# Altium schematic symbol library buffer_digital.SchLib: 134 symbols (part 1 of 2)
Pins are listed as number, name and electrical type; pins without a type are passive.

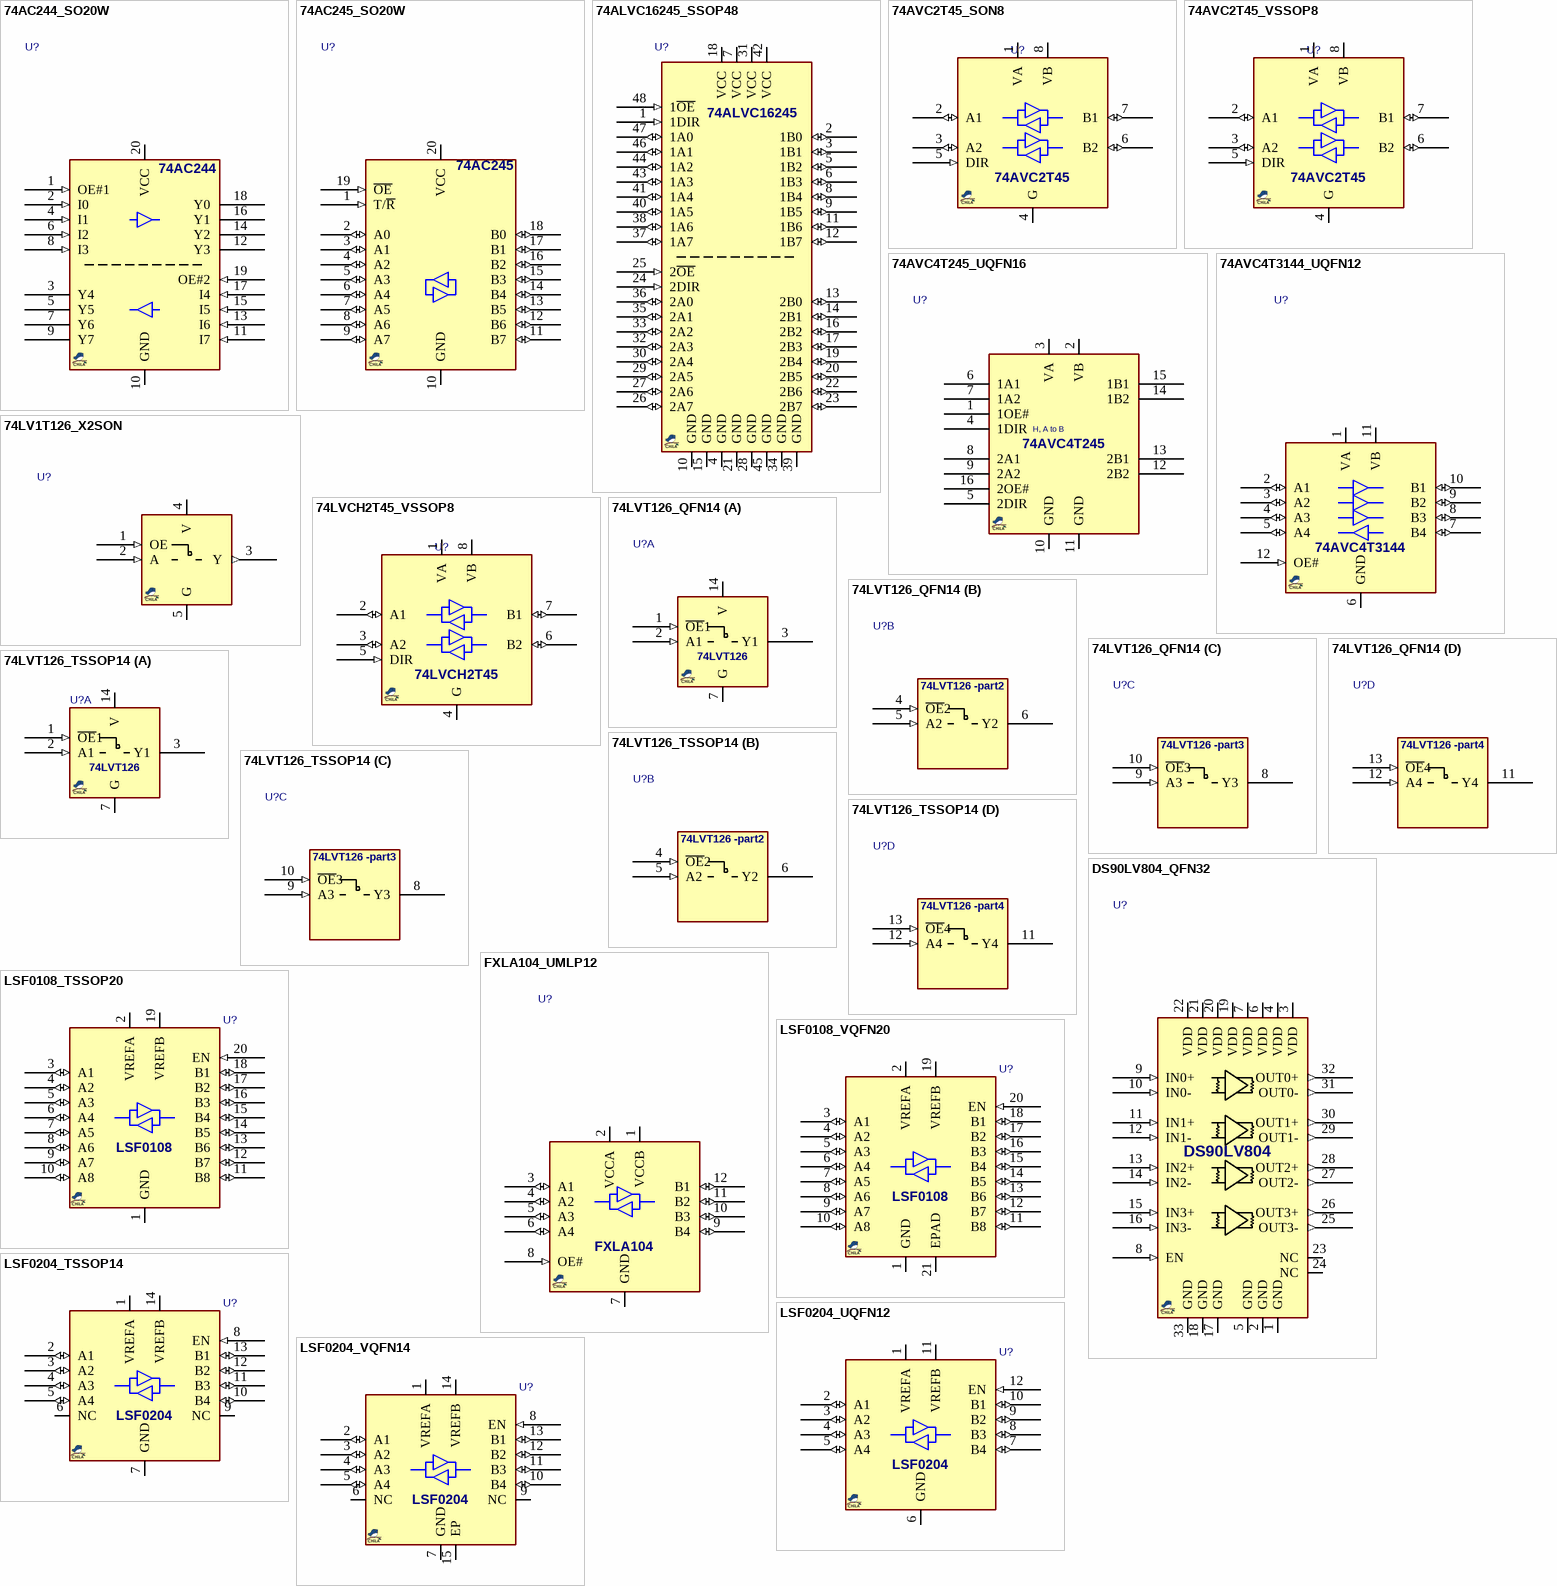
[diagram p0: symbols 74AC244_SO20W to LSF0204_VQFN14]

## 74AC244_SO20W
designator U?, comment 74AC244  (value not drawn)
Buffer/Line Driver, Octal with 3-State Output; MANF: Fairchild; DIST#: MOUSER/512-74AC244SC; MANF_P#: 74AC244SC; PRICE: 0.6$; PACKAGE: SOP-20W; VALUE: 74AC244
footprint SO_20_W (SOP, SOIC, 7.5mm width, 1.27mm pitch,)
pins: 1 OE#1 (in), 2 I0 (in), 3 Y4 (hiz), 4 I1 (in), 5 Y5 (hiz), 6 I2 (in), 7 Y6 (hiz), 8 I3 (in), 9 Y7 (hiz), 10 GND (power), 11 I7 (in), 12 Y3 (hiz), 13 I6 (in), 14 Y2 (hiz), 15 I5 (in), 16 Y1 (hiz), 17 I4 (in), 18 Y0 (hiz), 19 OE#2 (in), 20 VCC (power)

## 74AC245_SO20W
designator U?, comment 74AC245  (value not drawn)
Buffer/Line Driver, Bidirectional, Octal with 3-State Input/Output; MANF: Fairchild; DIST#: MOUSER/512-74AC245SCX; MANF_P#: 74AC245SCX; PRICE: 0.65$; PACKAGE: SOP-20W; VALUE: 74AC245
footprint SO_20_W (SOP, SOIC, 7.5mm width, 1.27mm pitch,)
pins: 1 T/~{R} (in), 2 A0 (io), 3 A1 (io), 4 A2 (io), 5 A3 (io), 6 A4 (io), 7 A5 (io), 8 A6 (io), 9 A7 (io), 10 GND (power), 11 B7 (io), 12 B6 (io), 13 B5 (io), 14 B4 (io), 15 B3 (io), 16 B2 (io), 17 B1 (io), 18 B0 (io), 19 ~{OE} (in), 20 VCC (power)

## 74ALVC16245_SSOP48
designator U?, comment 74ALVC16245  (value not drawn)
bus transceiver, 16-bit, with direction pin; 3-state; MANF: NXP; MANF_P#: 74ALVC16245DL, 74ALVCH16245DL; PACKAGE: SSOP-48; VALUE: 74ALVC16245
footprint SOG63_48
pins: 1 1DIR (in), 2 1B0 (io), 3 1B1 (io), 4 GND (power), 5 1B2 (io), 6 1B3 (io), 7 VCC (power), 8 1B4 (io), 9 1B5 (io), 10 GND (power), 11 1B6 (io), 12 1B7 (io), 13 2B0 (io), 14 2B1 (io), 15 GND (power), 16 2B2 (io), 17 2B3 (io), 18 VCC (power), 19 2B4 (io), 20 2B5 (io), 21 GND (power), 22 2B6 (io), 23 2B7 (io), 24 2DIR (in), 25 2~{OE} (in), 26 2A7 (io), 27 2A6 (io), 28 GND (power), 29 2A5 (io), 30 2A4 (io), 31 VCC (power), 32 2A3 (io), 33 2A2 (io), 34 GND (power), 35 2A1 (io), 36 2A0 (io), 37 1A7 (io), 38 1A6 (io), 39 GND (power), 40 1A5 (io), 41 1A4 (io), 42 VCC (power), 43 1A3 (io), 44 1A2 (io), 45 GND (power), 46 1A1 (io), 47 1A0 (io), 48 1~{OE} (in)

## 74AVC2T45_SON8
designator U?, comment 74AVC2T45  (value not drawn)
Level Translator, Dual, 3State; MANF: NXP; MANF_P#: 74AVC2T45GT,115; PARAM2: 0.8~3.6Vcc; PARAM: 500 Mbps 1.8to3.3, 4pF, ±50mA; PRICE: 0.4$; PACKAGE: SON-8; VALUE: 74AVC2T45
footprint SON50_8_2010 (QFN-8 DLC, 1.95X1X0.5mm, pitch: 0.5mm)
pins: 1 VA, 2 A1 (io), 3 A2 (io), 4 G, 5 DIR (in), 6 B2 (io), 7 B1 (io), 8 VB

## 74AVC2T45_VSSOP8
designator U?, comment 74AVC2T45  (value not drawn)
Level Translator, Dual, 3State; MANF: NXP, TI; MANF_P#: 74AVC2T45DC, SN74AVC2T45DCU; PARAM2: 0.8~3.6Vcc; PARAM: 500 Mbps 1.8to3.3, 4pF, ±50mA; PRICE: 0.4$; PACKAGE: VSSOP-8; VALUE: 74AVC2T45
footprint SOG50_8 (VSSOP DCU US8  (TI), 8-Leads, 2.00x2.30mm, Pitch 0.50mm)
pins: 1 VA, 2 A1 (io), 3 A2 (io), 4 G, 5 DIR (in), 6 B2 (io), 7 B1 (io), 8 VB

## 74AVC4T245_UQFN16
designator U?, comment 74AVC4T245  (value not drawn)
Buffer and Level Translator, 4-bit; PARAM: 12mA, 380Mbps, 5ns/V, -40~85°C; MANF: NXP; DESC: DESCRIPTION; MANF_P#: 74AVC4T245GU; PARAM2: 0.8~3.6V; PRICE: 1.8$; ASSEMBLY: ASSEMBLY; VALUE: 74AVC4T245; PACKAGE: UQFN-16
footprint QFN40_16_2618 (PUQFN-16 RSV 2.6X1.8mm, 0.4mm pitch)
pins: 1 1OE#, 2 VB, 3 VA, 4 1DIR, 5 2DIR, 6 1A1, 7 1A2, 8 2A1, 9 2A2, 10 GND, 11 GND, 12 2B2, 13 2B1, 14 1B2, 15 1B1, 16 2OE#
text: H, A to B

## 74AVC4T3144_UQFN12
designator U?, comment 74AVC4T3144  (value not drawn)
Level Translator, Quad, 100Mbps, UQFN-12; MANF: NXP; MANF_P#: 74AVC4T3144GU12; PARAM2: 0.9~4.5VCC; PARAM: 300Mbps, -40~85oC; PRICE: 1.4$; PACKAGE: UQFN-12; VALUE: 74AVC4T3144
footprint QFN40_12_1720 (UQFN-12, pitch: 0.4mm, 1.7x2x0.5mm)
pins: 1 VA, 2 A1 (io), 3 A2 (io), 4 A3 (io), 5 A4 (io), 6 GND, 7 B4 (io), 8 B3 (io), 9 B2 (io), 10 B1 (io), 11 VB, 12 OE# (in)

## 74LV1T126_X2SON
designator U?, comment 74LV1T126  (value not drawn)
Buffer, Single; MANF: NXP; PARAM: ±24mA, 5ns, -40~125°C; DESC: DESCRIPTION; MANF_P#: 74LV1T126GX; PARAM2: 1.65~5.5v; ASSEMBLY: ASSEMBLY; PRICE: 0.4$; PACKAGE: X2SON; VALUE: 74LV1T126
footprint SON50_4T_0808 (SDFN-4, X2SON 5, DPW, 0.8X0.8mm, 0.48mm pitch)
pins: 1 OE (in), 2 A (in), 3 Y (out), 4 V (power), 5 G (power)

## 74LVCH2T45_VSSOP8
designator U?, comment 74LVCH2T45  (value not drawn)
Level Translator, Dual, 3State; MANF: NXP; MANF_P#: 74LVCH2T45DC,125; PRICE: 0.6$; PACKAGE: VSSOP-8; VALUE: 74LVCH2T45
footprint SOG50_8 (VSSOP DCU US8  (TI), 8-Leads, 2.00x2.30mm, Pitch 0.50mm)
pins: 1 VA, 2 A1 (io), 3 A2 (io), 4 G, 5 DIR (in), 6 B2 (io), 7 B1 (io), 8 VB

## 74LVT126_QFN14
designator U?, comment 74LVT126  (value not drawn)
Buffer/Line Driver, Quad, Tri-State; MANF: NXP; MANF_P#: 74LVT126BQ,115; PARAM2: 3.3V; PARAM: 64mA, 6ns, -40~85°C; PRICE: 0.4$; PACKAGE: QFN-14; VALUE: 74LVT126
footprint QFN50_14T_2530 (DHVQFN14, 0.5mm pitch, 2.5x3x0.85mm)
part A pins: 1 ~{OE}1 (in), 2 A1 (in), 3 Y1 (hiz), 7 G (power), 14 V (power)
part B pins: 4 ~{OE}2 (in), 5 A2 (in), 6 Y2 (hiz)
part C pins: 8 Y3 (hiz), 9 A3 (in), 10 ~{OE}3 (in)
part D pins: 11 Y4 (hiz), 12 A4 (in), 13 ~{OE}4 (in)
part B text: 74LVT126 -part2
part C text: 74LVT126 -part3
part D text: 74LVT126 -part4

## 74LVT126_TSSOP14
designator U?, comment 74LVT126  (value not drawn)
Buffer/Line Driver, Quad, Tri-State; MANF: NXP; MANF_P#: 74LVT126BQ,115; PARAM2: 3.3V; PARAM: 64mA, 6ns, -40~85°C; PRICE: 0.4$; PACKAGE: TSSOP-14; VALUE: 74LVT126
footprint QFN50_14T_2530 (DHVQFN14, 0.5mm pitch, 2.5x3x0.85mm)
part A pins: 1 ~{OE}1 (in), 2 A1 (in), 3 Y1 (hiz), 7 G (power), 14 V (power)
part B pins: 4 ~{OE}2 (in), 5 A2 (in), 6 Y2 (hiz)
part C pins: 8 Y3 (hiz), 9 A3 (in), 10 ~{OE}3 (in)
part D pins: 11 Y4 (hiz), 12 A4 (in), 13 ~{OE}4 (in)
part B text: 74LVT126 -part2
part C text: 74LVT126 -part3
part D text: 74LVT126 -part4

## DS90LV804_QFN32
designator U?, comment DS90LV804  (value not drawn)
Buffer/Line Driver, 4CH, LVDS, 800Mbps; MANF: Texas Instruments; MANF_P#: DS90LV804TSQ; PARAM2: 3.3Vcc; DIST#: -; PRICE: 5$; PARAM: 4CH, LVDS, 800Mbps; VALUE: DS90LV804; PACKAGE: QFN-32
footprint QFN50_32T (QFN-32, RGJ, 5X5mm, 0.5mm)
pins: 1 GND (power), 2 GND (power), 3 VDD (power), 4 VDD (power), 5 GND (power), 6 VDD (power), 7 VDD (power), 8 EN (in), 9 IN0+ (in), 10 IN0- (in), 11 IN1+ (in), 12 IN1- (in), 13 IN2+ (in), 14 IN2- (in), 15 IN3+ (in), 16 IN3- (in), 17 GND (power), 18 GND (power), 19 VDD (power), 20 VDD (power), 21 VDD (power), 22 VDD (power), 23 NC, 24 NC, 25 OUT3- (out), 26 OUT3+ (out), 27 OUT2- (out), 28 OUT2+ (out), 29 OUT1- (out), 30 OUT1+ (out), 31 OUT0- (out), 32 OUT0+ (out), 33 GND (power)

## FXLA104_UMLP12
designator U?, comment FXLA104  (value not drawn)
Level Translator, Quad, 100Mbps, UMLP-12; MANF: ON/FAIRCHILD; MANF_P#: FXLA104UM12X; PARAM2: 1.1~3.6VCC (VCCA<=VCCB); PARAM: 100Mbps, -40~85oC; PRICE: 1.4$; PACKAGE: UMLP-12; VALUE: FXLA104
footprint QFN40_12_1818 (UMLP-12, QFN, 12-Leads, 1.8x1.80mm, Pitch 0.40mm, JEDEC MO-252)
pins: 1 VCCB, 2 VCCA, 3 A1 (io), 4 A2 (io), 5 A3 (io), 6 A4 (io), 7 GND, 8 OE# (in), 9 B4 (io), 10 B3 (io), 11 B2 (io), 12 B1 (io)

## LSF0108_TSSOP20
designator U?, comment LSF0108  (value not drawn)
Level Translator, 8CH, Bidirectional, Open-Drain/Push-Pull App, GPIO, MDIO, PMBus, SMBus, SDIO, UART, I2C; MANF: Texas Instruments; MANF_P#: LSF0108PW; PARAM2: 0.65~3.3VrefA, 1.8~5VrefB; PARAM: 100MHz; PACKAGE: TSSOP-20; VALUE: LSF0108
footprint SOG65_20 (PW TSSOP (TI), MO-153-AC (JEDEC), 20Lead, pitch: 0.65mm, 6.5x4.4x1.2mm)
pins: 1 GND (power), 2 VREFA (power), 3 A1 (io), 4 A2 (io), 5 A3 (io), 6 A4 (io), 7 A5 (io), 8 A6 (io), 9 A7 (io), 10 A8 (io), 11 B8 (io), 12 B7 (io), 13 B6 (io), 14 B5 (io), 15 B4 (io), 16 B3 (io), 17 B2 (io), 18 B1 (io), 19 VREFB (power), 20 EN (in)

## LSF0108_VQFN20
designator U?, comment LSF0108  (value not drawn)
Level Translator, 8CH, Bidirectional, Open-Drain/Push-Pull App, GPIO, MDIO, PMBus, SMBus, SDIO, UART, I2C; MANF: Texas Instruments; MANF_P#: LSF0108RKS; PARAM2: 0.65~3.3VrefA, 1.8~5VrefB; PARAM: 100MHz; PACKAGE: VQFN-20; VALUE: LSF0108
footprint QFN50_20T_4525 (RKS VQFN-20, 0.5mm Pitch, 4.5x2.5x1mm)
pins: 1 GND (power), 2 VREFA (power), 3 A1 (io), 4 A2 (io), 5 A3 (io), 6 A4 (io), 7 A5 (io), 8 A6 (io), 9 A7 (io), 10 A8 (io), 11 B8 (io), 12 B7 (io), 13 B6 (io), 14 B5 (io), 15 B4 (io), 16 B3 (io), 17 B2 (io), 18 B1 (io), 19 VREFB (power), 20 EN (in), 21 EPAD

## LSF0204_TSSOP14
designator U?, comment LSF0204  (value not drawn)
Level Translator, 4CH, Bidirectional, Open-Drain/Push-Pull App,  GPIO, MDIO, PMBus, SMBus, SDIO, UART, I2C; MANF: Texas Instruments; MANF_P#: LSF0204PWR; PARAM2: 0.65~3.3VrefA, 1.8~5VrefB; PARAM: 100MHz; PACKAGE: TSSOP-14; VALUE: LSF0204
footprint SOG65_14 (PW TSSOP (TI), MO-153-AB (JEDEC), 14Lead, pitch: 0.65mm, 5x4.4x1.2mm)
pins: 1 VREFA, 2 A1 (io), 3 A2 (io), 4 A3 (io), 5 A4 (io), 6 NC, 7 GND, 8 EN (in), 9 NC, 10 B4 (io), 11 B3 (io), 12 B2 (io), 13 B1 (io), 14 VREFB

## LSF0204_UQFN12
designator U?, comment LSF0204  (value not drawn)
Level Translator, 4CH, Bidirectional, Open-Drain/Push-Pull App,  GPIO, MDIO, PMBus, SMBus, SDIO, UART, I2C; MANF: Texas Instruments; MANF_P#: LSF0204RUT; PARAM2: 0.65~3.3VrefA, 1.8~5VrefB; PARAM: 100MHz; PACKAGE: UQFN-12; VALUE: LSF0204
footprint QFN40_12_1720 (UQFN-12, pitch: 0.4mm, 1.7x2x0.5mm)
pins: 1 VREFA (power), 2 A1 (io), 3 A2 (io), 4 A3 (io), 5 A4 (io), 6 GND (power), 7 B4 (io), 8 B3 (io), 9 B2 (io), 10 B1 (io), 11 VREFB (power), 12 EN (in)

## LSF0204_VQFN14
designator U?, comment LSF0204  (value not drawn)
Level Translator, 4CH, Bidirectional, Open-Drain/Push-Pull App,  GPIO, MDIO, PMBus, SMBus, SDIO, UART, I2C; MANF: Texas Instruments; MANF_P#: LSF0204RGYR; PARAM2: 0.65~3.3VrefA, 1.8~5VrefB; PARAM: 100MHz; PACKAGE: VQFN-14; VALUE: LSF0204
footprint QFN50_14T_3535 (S-PVQFN-N14, 3.5X3.5mm, pitch: 0.5mm, 6+2+6+2)
pins: 1 VREFA, 2 A1 (io), 3 A2 (io), 4 A3 (io), 5 A4 (io), 6 NC, 7 GND, 8 EN (in), 9 NC, 10 B4 (io), 11 B3 (io), 12 B2 (io), 13 B1 (io), 14 VREFB, 15 EP

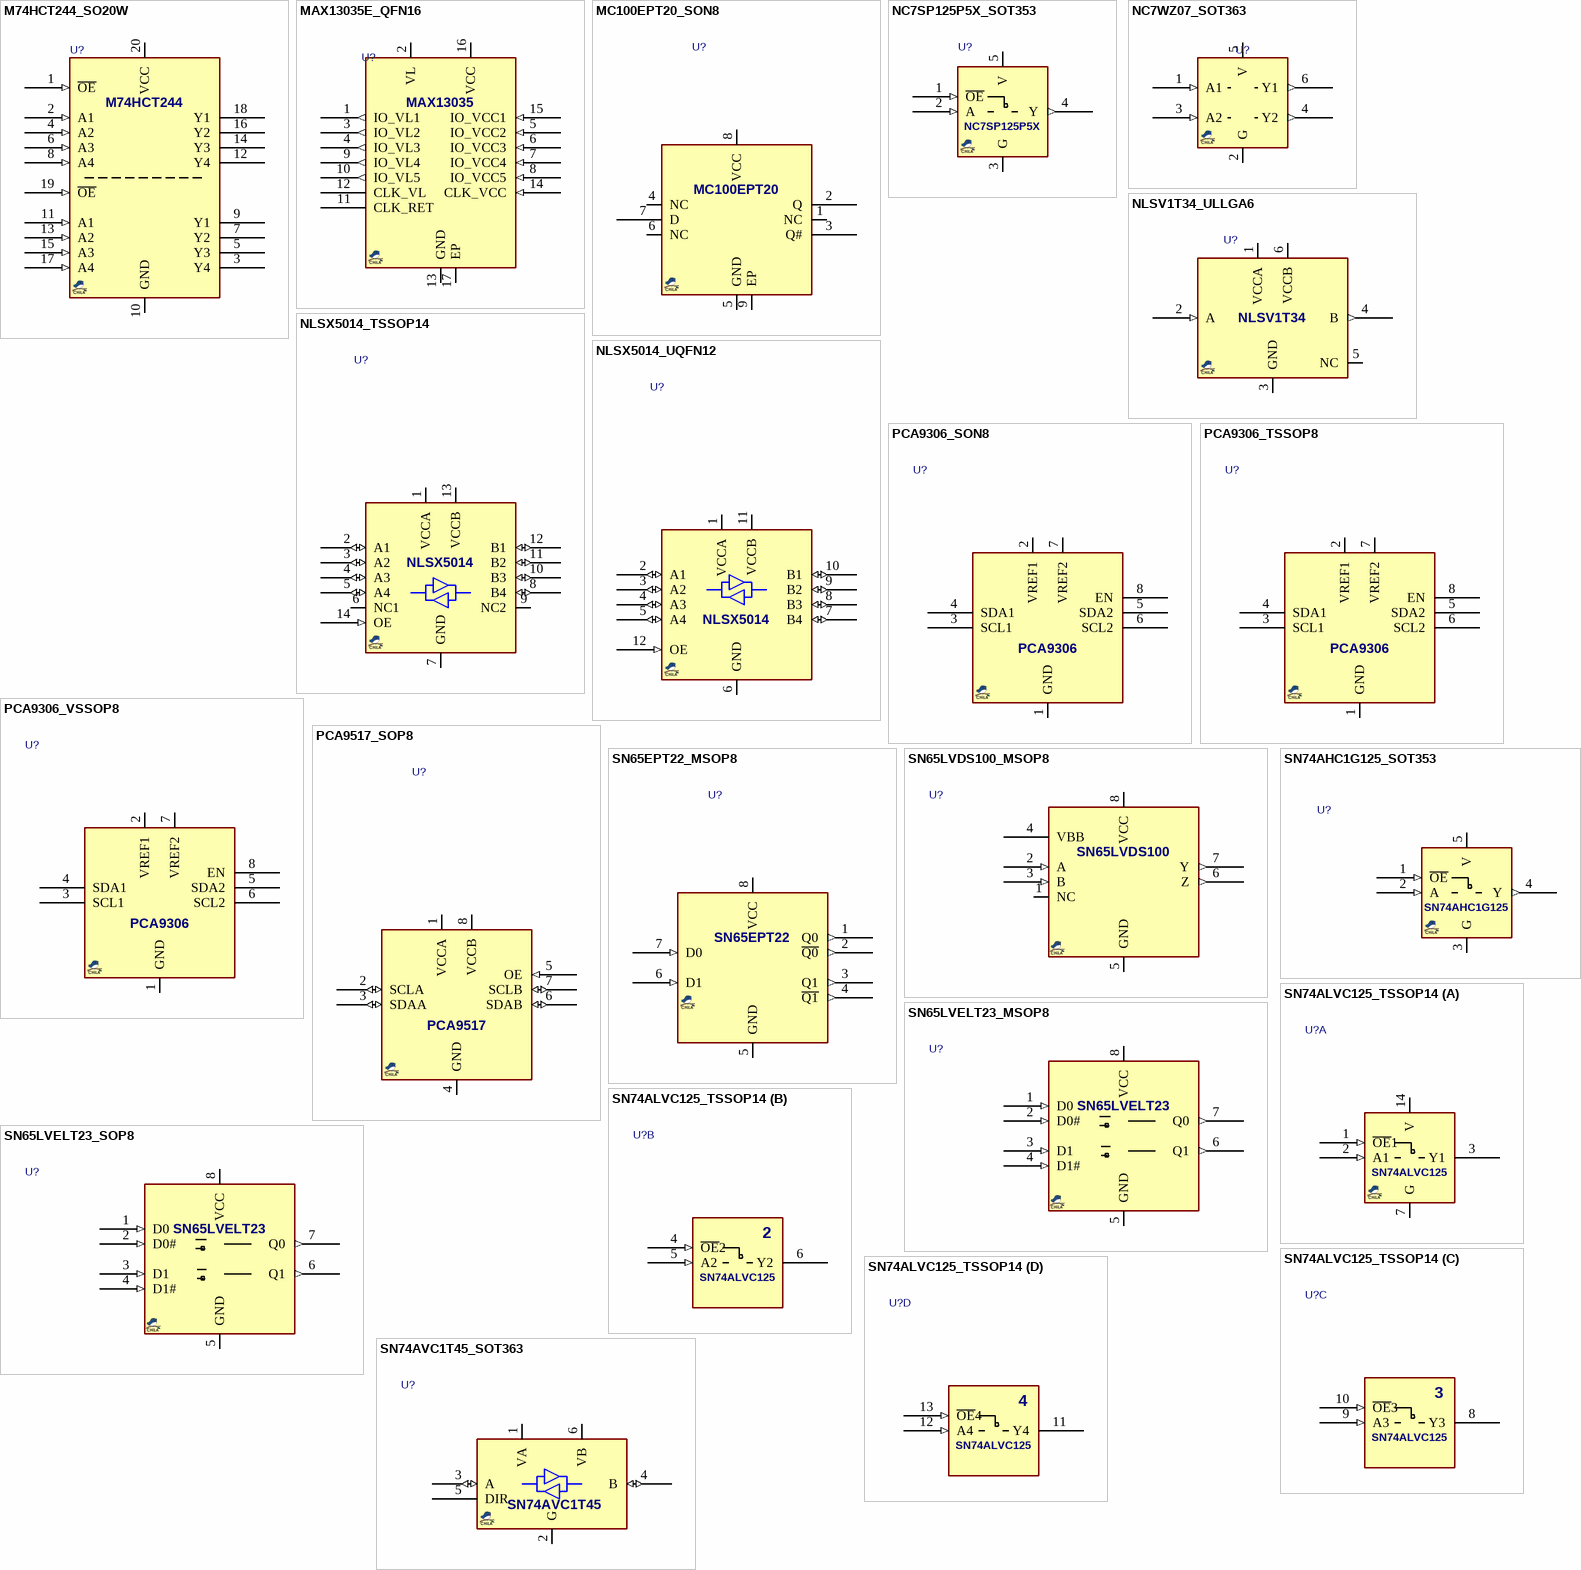
[diagram p1: symbols M74HCT244_SO20W to SN74AVC1T45_SOT363]

## M74HCT244_SO20W
designator U?, comment M74HCT244  (value not drawn)
Buffer, Octal, 3 State Outputs; MANF: ON; MANF_P#: M74HCT244M1R; PACKAGE: SOP-20W; VALUE: M74HCT244
footprint SO_20_W (SOP, SOIC, 7.5mm width, 1.27mm pitch,)
pins: 1 ~{OE} (in), 2 A1 (in), 3 Y4 (hiz), 4 A2 (in), 5 Y3 (hiz), 6 A3 (in), 7 Y2 (hiz), 8 A4 (in), 9 Y1 (hiz), 10 GND (power), 11 A1 (in), 12 Y4 (hiz), 13 A2 (in), 14 Y3 (hiz), 15 A3 (in), 16 Y2 (hiz), 17 A4 (in), 18 Y1 (hiz), 19 ~{OE} (in), 20 VCC (power)

## MAX13035E_QFN16
designator U?, comment MAX13035  (value not drawn)
Level Translator, 6-ch, 100Mbps; MANF: MAXIM; MANF_P#: MAX13035EETE+; PARAM2: 1.6~3.2VAA/2.2~3.6VB; PACKAGE: QFN-16; VALUE: MAX13035
footprint QFN50_16T_4X4 (QFN, 16, 4X4mm, 0.5mm)
pins: 1 IO_VL1 (out), 2 VL, 3 IO_VL2 (out), 4 IO_VL3 (out), 5 IO_VCC2 (in), 6 IO_VCC3 (in), 7 IO_VCC4 (in), 8 IO_VCC5 (in), 9 IO_VL4 (out), 10 IO_VL5 (out), 11 CLK_RET, 12 CLK_VL, 13 GND, 14 CLK_VCC (in), 15 IO_VCC1 (in), 16 VCC, 17 EP

## MC100EPT20_SON8
designator U?, comment MC100EPT20  (value not drawn)
Buffer, LVTTL/LVCMOS to Diff-LVPECL , 1GHz, 3.3V, DFN-8; MANF: ON; DESC: DESCRIPTION; MANF_P#: MC100EPT20MNR4G; ASSEMBLY: ASSEMBLY; PARAM: PARAM; PRICE: 8$; PACKAGE: SON-8; VALUE: MC100EPT20
footprint SON50_8T_2020 (DSG PWSON (TI), Pitch: 0.5mm 2x2x0.8mm with Thermal pad)
pins: 1 NC, 2 Q, 3 Q#, 4 NC, 5 GND, 6 NC, 7 D, 8 VCC, 9 EP

## NC7SP125P5X_SOT353
designator U?, comment NC7SP125P5X  (value not drawn)
Buffer, ULP, 0.9-3.6V; MANF: FAIRCHILD; MANF_P#: NC7SP125P5X; PARAM2: 0.9-3.6V; PRICE: -; PACKAGE: SOT-353; VALUE: NC7SP125P5X
footprint SOT353_5 (SC-88A, SC70-5, SOT-353, DCK (TI), 0.65mm pitch 2X1.3mm body)
pins: 1 ~{OE} (in), 2 A (in), 3 G (power), 4 Y (out), 5 V (power)

## NC7WZ07_SOT363
designator U?, comment NC7WZ07  (value not drawn)
Buffer, Dual, UHS, OpenDrainOutput; MANF: FAIRCHILD; MANF_P#: NC7WZ07P6X; PARAM2: 1.65~5.5V; PACKAGE: SOT-363; VALUE: NC7WZ07
footprint SOT363_6 (SOT-363, SC-70_6, BFS483, SC-88, MO-203AB, DSO65_6_200X130)
pins: 1 A1 (in), 2 G, 3 A2 (in), 4 Y2 (out), 5 V, 6 Y1 (out)

## NLSV1T34_ULLGA6
designator U?, comment NLSV1T34  (value not drawn)
Level Translator, 1BIT 0.9-4.5V 613AF; MANF: On Semiconductor; MANF_P#: NLSV1T34AMX1TCG; PACKAGE: ULLGA-6; VALUE: NLSV1T34
footprint SON50_6_1410 (DRY, ULLGA6_1.45X1_0.5mm, USON 6-PIN , UDFN, MicroPak-6)
pins: 1 VCCA (power), 2 A (in), 3 GND (power), 4 B (out), 5 NC, 6 VCCB (power)

## NLSX5014_TSSOP14
designator U?, comment NLSX5014  (value not drawn)
Level Translator, Quad, 100Mbps; MANF: ON; MANF_P#: NLSX5014DTR2G; PARAM2: 0.9~4.5V; PARAM: 100Mbps, -55~125oC; PACKAGE: TSSOP-14; VALUE: NLSX5014
footprint SOG65_14 (PW TSSOP (TI), MO-153-AB (JEDEC), 14Lead, pitch: 0.65mm, 5x4.4x1.2mm)
pins: 1 VCCA, 2 A1 (io), 3 A2 (io), 4 A3 (io), 5 A4 (io), 6 NC1, 7 GND, 8 B4 (io), 9 NC2, 10 B3 (io), 11 B2 (io), 12 B1 (io), 13 VCCB, 14 OE (in)

## NLSX5014_UQFN12
designator U?, comment NLSX5014  (value not drawn)
Level Translator, Quad, 100Mbps, UQFN-12; MANF: ON; MANF_P#: NLSX5014MUTAG; PARAM2: 0.9~4.5VCC; PARAM: 100Mbps, -40~85oC; PRICE: 1.4$; PACKAGE: UQFN-12; VALUE: NLSX5014
footprint QFN40_12_1720 (UQFN-12, pitch: 0.4mm, 1.7x2x0.5mm)
pins: 1 VCCA, 2 A1 (io), 3 A2 (io), 4 A3 (io), 5 A4 (io), 6 GND, 7 B4 (io), 8 B3 (io), 9 B2 (io), 10 B1 (io), 11 VCCB, 12 OE (in)

## PCA9306_SON8
designator U?, comment PCA9306  (value not drawn)
Level Translator, I2C; MANF: Texas Instruments; MANF_P#: PCA9306DQE; PARAM2: 1.2~3.3V1, 1.8~5.5V2; PRICE: 0.6$; PACKAGE: X2SON-8; VALUE: PCA9306
footprint SON35_8 (X2SON-8-DQE, pitch: 0.35mm, 1.4mmX1.00mm)
pins: 1 GND, 2 VREF1, 3 SCL1, 4 SDA1, 5 SDA2, 6 SCL2, 7 VREF2, 8 EN

## PCA9306_TSSOP8
designator U?, comment PCA9306  (value not drawn)
Level Translator, I2C; MANF: Texas Instruments; MANF_P#: PCA9306DCT; PARAM2: 1.2~3.3V1, 1.8~5.5V2; PRICE: 0.4$; PACKAGE: SM8 (TSSOP-8); VALUE: PCA9306
footprint SOG65_8_3 (TSSOP8, MICRO8,  DGK VSSOP-8, MSOP8,   RM-8, MS8, MSOP-8, TSSO3X5-G8/D3.1, 8 uMAX, usop8/8uSOP, MO-187AA, MO-153AA, SSOP DCT SM8 (TI), pitch: 0.65mm, 3.0mmX3.0mm)
pins: 1 GND, 2 VREF1, 3 SCL1, 4 SDA1, 5 SDA2, 6 SCL2, 7 VREF2, 8 EN

## PCA9306_VSSOP8
designator U?, comment PCA9306  (value not drawn)
Level Translator, I2C; MANF: Texas Instruments; MANF_P#: PCA9306DCU; PARAM2: 1.2~3.3V1, 1.8~5.5V2; PRICE: 0.6$; PACKAGE: VSSOP-8; VALUE: PCA9306
footprint SOG50_8 (VSSOP DCU US8  (TI), 8-Leads, 2.00x2.30mm, Pitch 0.50mm)
pins: 1 GND, 2 VREF1, 3 SCL1, 4 SDA1, 5 SDA2, 6 SCL2, 7 VREF2, 8 EN

## PCA9517_SOP8
designator U?, comment PCA9517  (value not drawn)
Level Translator, I2C; MANF: Texas Instruments; MANF_P#: PCA9517D; PARAM2: 2.7~5.5V; PACKAGE: SOP-8; VALUE: PCA9517
footprint SO_8 (SOP-8, 5x3.9mm body 1.27mm pitch, SOT96-1, M08A, S8, SOIC8, VO8, MS-012AA(JEDEC), R-8, 8S2, VOG8)
pins: 1 VCCA, 2 SCLA (io), 3 SDAA (io), 4 GND, 5 OE (in), 6 SDAB (io), 7 SCLB (io), 8 VCCB

## SN65EPT22_MSOP8
designator U?, comment SN65EPT22  (value not drawn)
Buffer, LVTTL/LVCMOS to Diff-LVPECL , DUAL, 4000Mbps, 3.3V, VSSOP (DGK); MANF: Texas Instruments; DESC: DESCRIPTION; MANF_P#: SN65EPT22DGK; ASSEMBLY: ASSEMBLY; PARAM: PARAM; PRICE: PRICE; PACKAGE: MSOP-8; VALUE: SN65EPT22
footprint SOG65_8_3 (TSSOP8, MICRO8,  DGK VSSOP-8, MSOP8,   RM-8, MS8, MSOP-8, TSSO3X5-G8/D3.1, 8 uMAX, usop8/8uSOP, MO-187AA, MO-153AA, SSOP DCT SM8 (TI), pitch: 0.65mm, 3.0mmX3.0mm)
pins: 1 Q0 (out) "LVPECL outputs", 2 ~{Q0} (out) "LVPECL outputs", 3 Q1 (out) "LVPECL outputs", 4 ~{Q1} (out) "LVPECL outputs", 5 GND (power) "Ground", 6 D1 (in) "LVTTL data inputs", 7 D0 (in) "LVTTL data inputs", 8 VCC (power) "Positive supply"

## SN65LVDS100_MSOP8
designator U?, comment SN65LVDS100  (value not drawn)
Buffer, Diff LVPECL/LVDS/CML signaling, 3.3V; MANF: Texas Instruments; MANF_P#: SN65LVDS100DGK; PARAM2: 3.3V; PACKAGE: MSOP-8; VALUE: SN65LVDS100
footprint SOG65_8_3 (TSSOP8, MICRO8,  DGK VSSOP-8, MSOP8,   RM-8, MS8, MSOP-8, TSSO3X5-G8/D3.1, 8 uMAX, usop8/8uSOP, MO-187AA, MO-153AA, SSOP DCT SM8 (TI), pitch: 0.65mm, 3.0mmX3.0mm)
pins: 1 NC, 2 A (in), 3 B (in), 4 VBB, 5 GND (power), 6 Z (out), 7 Y (out), 8 VCC (power)

## SN65LVELT23_MSOP8
designator U?, comment SN65LVELT23  (value not drawn)
Buffer, Diff LVPECL/LVDS to LVTTL Translator, 2-CH, 3.3V; MANF: Texas Instruments; MANF_P#: SN65LVELT23DGK; PARAM: 8-BIT, BIDIRECTIONAL, AUTO-DIRECTION SENSING; PARAM2: 3.3V; PACKAGE: MSOP-8; VALUE: SN65LVELT23
footprint SOG65_8_3 (TSSOP8, MICRO8,  DGK VSSOP-8, MSOP8,   RM-8, MS8, MSOP-8, TSSO3X5-G8/D3.1, 8 uMAX, usop8/8uSOP, MO-187AA, MO-153AA, SSOP DCT SM8 (TI), pitch: 0.65mm, 3.0mmX3.0mm)
pins: 1 D0 (in), 2 D0# (in), 3 D1 (in), 4 D1# (in), 5 GND, 6 Q1 (out), 7 Q0 (out), 8 VCC

## SN65LVELT23_SOP8
designator U?, comment SN65LVELT23  (value not drawn)
Buffer, Diff LVPECL/LVDS to LVTTL Translator, 2-CH, 3.3V; MANF: Texas Instruments; MANF_P#: SN65LVELT23D; PARAM: 8-BIT, BIDIRECTIONAL, AUTO-DIRECTION SENSING; PARAM2: 3.3V; PACKAGE: SOP-8; VALUE: SN65LVELT23
footprint SO_8 (SOP-8, 5x3.9mm body 1.27mm pitch, SOT96-1, M08A, S8, SOIC8, VO8, MS-012AA(JEDEC), R-8, 8S2, VOG8)
pins: 1 D0 (in), 2 D0# (in), 3 D1 (in), 4 D1# (in), 5 GND, 6 Q1 (out), 7 Q0 (out), 8 VCC

## SN74AHC1G125_SOT353
designator U?, comment SN74AHC1G125  (value not drawn)
Buffer, Single; MANF: Texas Instruments; DESC: DESCRIPTION; MANF_P#: SN74AHC1G125DCKR; ASSEMBLY: ASSEMBLY; PARAM: PARAM; PRICE: PRICE; PACKAGE: SOT-353; VALUE: SN74AHC1G125
footprint SOT353_5 (SC-88A, SC70-5, SOT-353, DCK (TI), 0.65mm pitch 2X1.3mm body)
pins: 1 ~{OE} (in), 2 A (in), 3 G (power), 4 Y (out), 5 V (power)

## SN74ALVC125_TSSOP14
designator U?, comment SN74ALVC125  (value not drawn)
Buffer/Line Driver, Quad, Tri-State; MANF: Texas Instruments; MANF_P#: SN74ALVC125PWR; PACKAGE: TSSOP-14; VALUE: SN74ALVC125
footprint SOG65_14 (PW TSSOP (TI), MO-153-AB (JEDEC), 14Lead, pitch: 0.65mm, 5x4.4x1.2mm)
part A pins: 1 ~{OE}1 (in), 2 A1 (in), 3 Y1 (hiz), 7 G (power), 14 V (power)
part B pins: 4 ~{OE}2 (in), 5 A2 (in), 6 Y2 (hiz)
part C pins: 8 Y3 (hiz), 9 A3 (in), 10 ~{OE}3 (in)
part D pins: 11 Y4 (hiz), 12 A4 (in), 13 ~{OE}4 (in)

## SN74AVC1T45_SOT363
designator U?, comment SN74AVC1T45  (value not drawn)
Level Translator, 1-bit; PARAM: 1.2V-3.6V; MANF: Texas Instruments; DESC: DESCRIPTION; MANF_P#: SN74AVC1T45DCKR; PRICE: 0.217; ASSEMBLY: ASSEMBLY; PACKAGE: SOT-363; VALUE: SN74AVC1T45
footprint SOT363_6 (SOT-363, SC-70_6, BFS483, SC-88, MO-203AB, DSO65_6_200X130)
pins: 1 VA (power), 2 G (power), 3 A (io), 4 B (io), 5 DIR, 6 VB (power)

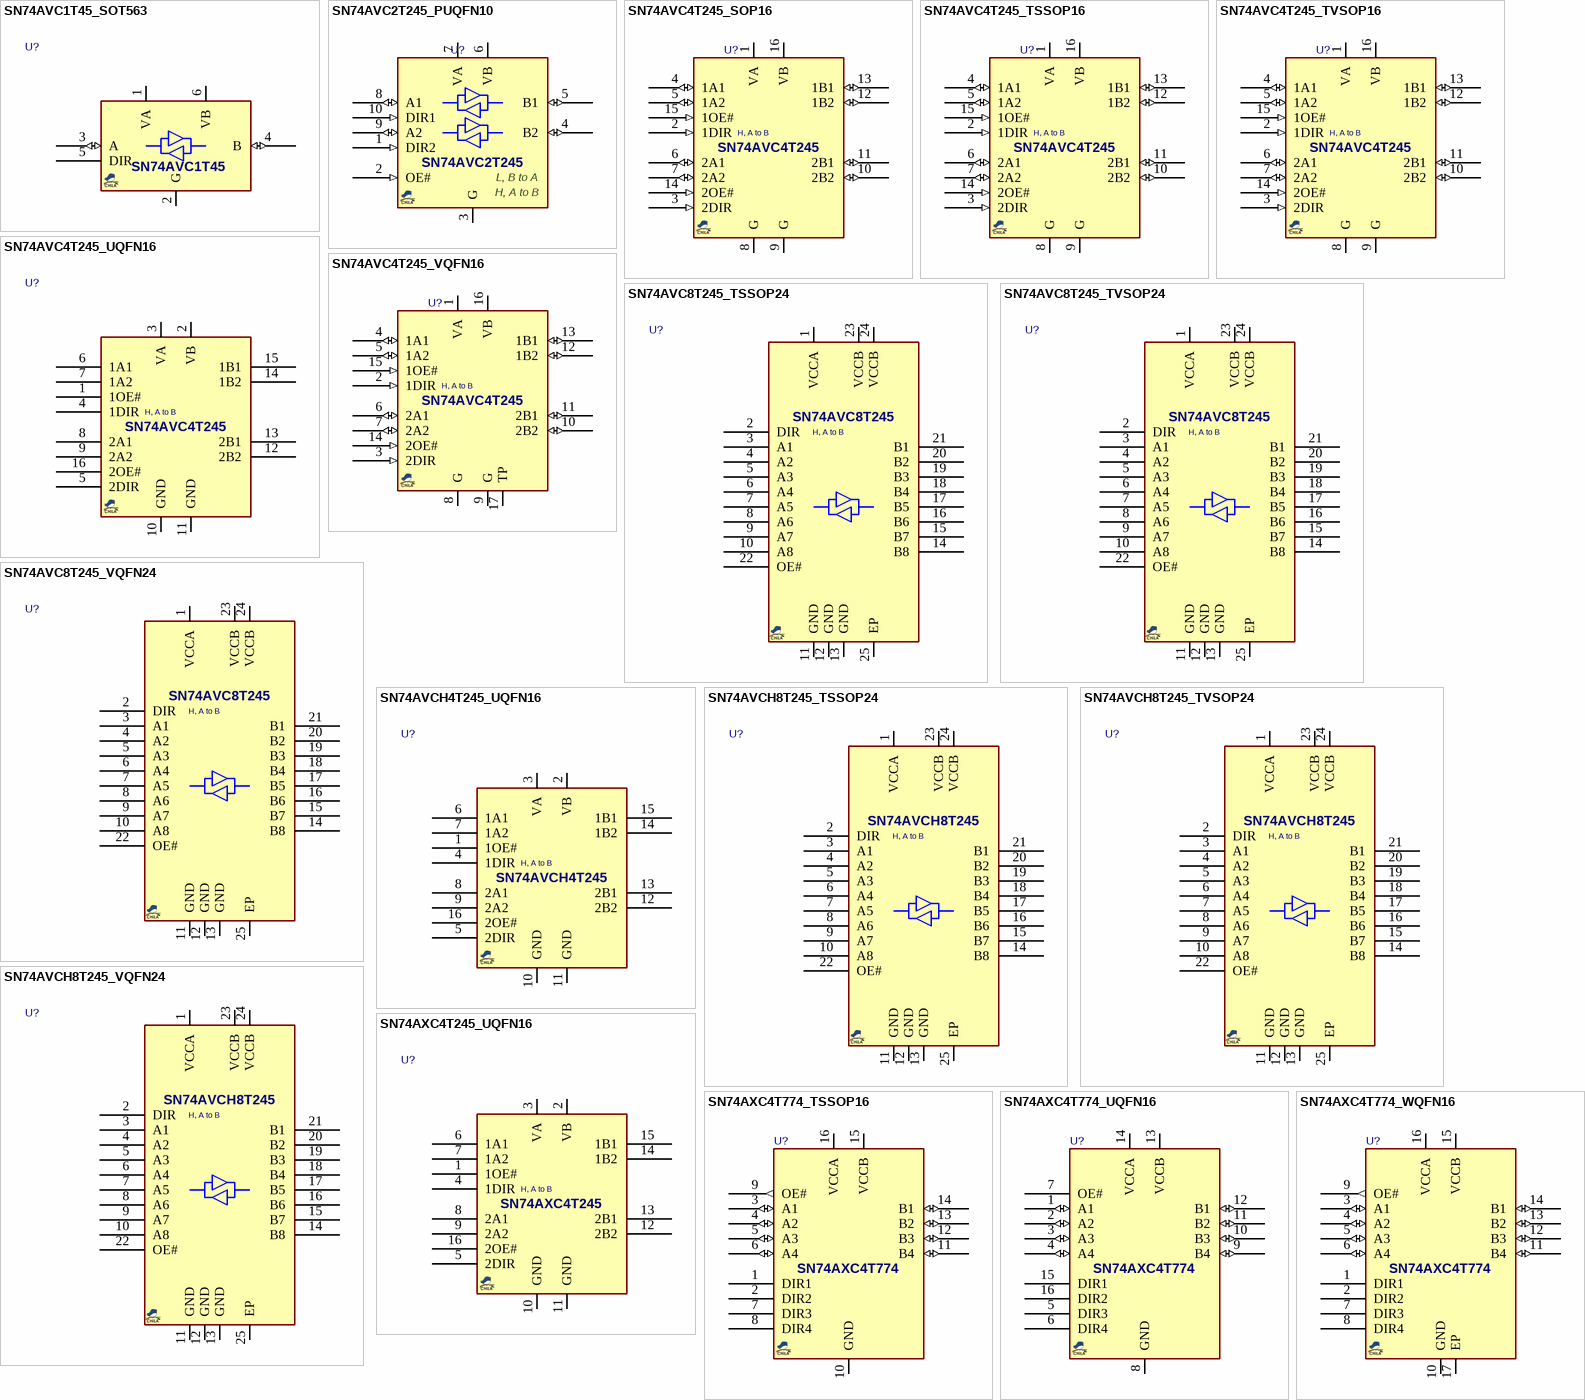
[diagram p2: symbols SN74AVC1T45_SOT563 to SN74AXC4T774_WQFN16]

## SN74AVC1T45_SOT563
designator U?, comment SN74AVC1T45  (value not drawn)
Level Translator, 1-bit; PARAM: 1.2V-3.6V; MANF: Texas Instruments; DESC: DESCRIPTION; MANF_P#: SN74AVC1T45DRL; PRICE: 0.217; ASSEMBLY: ASSEMBLY; PACKAGE: SOT-563; VALUE: SN74AVC1T45
footprint SOT563_6 (SOT-563, SOT-666, 6 LEAD, Body 1.2x1.6mm, Pitch 0.50mm)
pins: 1 VA (power), 2 G (power), 3 A (io), 4 B (io), 5 DIR, 6 VB (power)

## SN74AVC2T245_PUQFN10
designator U?, comment SN74AVC2T245  (value not drawn)
Level Translator, Dual, 3State; MANF: Texas Instruments; MANF_P#: SN74AVC2T245RSWR; PRICE: 0.6$; PACKAGE: PUQFN-10; VALUE: SN74AVC2T245
footprint QFN40_10_1418 (PUQFN-10 RSW 1.8X1.4mm, 0.4mm pitch)
pins: 1 DIR2 (in), 2 OE# (in), 3 G, 4 B2 (io), 5 B1 (io), 6 VB, 7 VA, 8 A1 (io), 9 A2 (io), 10 DIR1 (in)
text: L, B to A; H, A to B

## SN74AVC4T245_SOP16
designator U?, comment SN74AVC4T245  (value not drawn)
Level Translator, Quad, 3State; MANF: Texas Instruments; MANF_P#: SN74AVC4T245DR; PARAM2: 1.2~3.6V; PARAM: 2.9ns; PRICE: 1$; VALUE: SN74AVC4T245; PACKAGE: SOP-16
footprint SO_16 (SOP, SOIC, 3.9mm width, 1.27mm pitch,)
pins: 1 VA, 2 1DIR (in), 3 2DIR (in), 4 1A1 (io), 5 1A2 (io), 6 2A1 (io), 7 2A2 (io), 8 G, 9 G, 10 2B2 (io), 11 2B1 (io), 12 1B2 (io), 13 1B1 (io), 14 2OE# (in), 15 1OE# (in), 16 VB
text: H, A to B

## SN74AVC4T245_TSSOP16
designator U?, comment SN74AVC4T245  (value not drawn)
Level Translator, Quad, 3State; MANF: Texas Instruments; MANF_P#: SN74AVC4T245PWR; PARAM2: 1.2~3.6V; PARAM: 2.9ns; PRICE: 1$; VALUE: SN74AVC4T245; PACKAGE: TSSOP-16
footprint SOG65_16 (PW TSSOP (TI), MO-153-AB (JEDEC), 16Lead, pitch: 0.65mm, 5x4.4x1.2mm)
pins: 1 VA, 2 1DIR (in), 3 2DIR (in), 4 1A1 (io), 5 1A2 (io), 6 2A1 (io), 7 2A2 (io), 8 G, 9 G, 10 2B2 (io), 11 2B1 (io), 12 1B2 (io), 13 1B1 (io), 14 2OE# (in), 15 1OE# (in), 16 VB
text: H, A to B

## SN74AVC4T245_TVSOP16
designator U?, comment SN74AVC4T245  (value not drawn)
Level Translator, Quad, 3State; MANF: Texas Instruments; MANF_P#: SN74AVC4T245DGVR; PARAM2: 1.2~3.6V; PARAM: 2.9ns; PRICE: 1$; VALUE: SN74AVC4T245; PACKAGE: TVSOP-16
footprint SOG40_16
pins: 1 VA, 2 1DIR (in), 3 2DIR (in), 4 1A1 (io), 5 1A2 (io), 6 2A1 (io), 7 2A2 (io), 8 G, 9 G, 10 2B2 (io), 11 2B1 (io), 12 1B2 (io), 13 1B1 (io), 14 2OE# (in), 15 1OE# (in), 16 VB
text: H, A to B

## SN74AVC4T245_UQFN16
designator U?, comment 74AVC4T245  (value not drawn)
Buffer and Level Translator, 4-bit; PARAM: 12mA, 380Mbps, 5ns/V, -40~85°C; MANF: Texas Instruments; DESC: DESCRIPTION; MANF_P#: SN74AVC4T245RSV; PARAM2: 1.2~3.6V; PRICE: 1$; ASSEMBLY: ASSEMBLY; VALUE: 74AVC4T245; PACKAGE: UQFN-16
footprint QFN40_16_2618 (PUQFN-16 RSV 2.6X1.8mm, 0.4mm pitch)
pins: 1 1OE#, 2 VB, 3 VA, 4 1DIR, 5 2DIR, 6 1A1, 7 1A2, 8 2A1, 9 2A2, 10 GND, 11 GND, 12 2B2, 13 2B1, 14 1B2, 15 1B1, 16 2OE#
text: H, A to B; SN74AVC4T245

## SN74AVC4T245_VQFN16
designator U?, comment SN74AVC4T245  (value not drawn)
Level Translator, Quad, 3State; MANF: Texas Instruments; MANF_P#: SN74AVC4T245RGY; PARAM2: 1.2~3.6V; PARAM: 2.9ns; PRICE: 1$; VALUE: SN74AVC4T245; PACKAGE: VQFN-16
footprint QFN50_16T_4035 (VQFN-16 RGY 4X3.5mm, 0.5mm pitch)
pins: 1 VA, 2 1DIR (in), 3 2DIR (in), 4 1A1 (io), 5 1A2 (io), 6 2A1 (io), 7 2A2 (io), 8 G, 9 G, 10 2B2 (io), 11 2B1 (io), 12 1B2 (io), 13 1B1 (io), 14 2OE# (in), 15 1OE# (in), 16 VB, 17 TP
text: H, A to B

## SN74AVC8T245_TSSOP24
designator U?, comment SN74AVC8T245  (value not drawn)
Level Translator, Octal, 320Mbps, 8kVESD; MANF: Texas Instruments; MANF_P#: SN74AVC8T245PW; PARAM2: 1.4~3.6v; PARAM: 320Mbps, 8kVESD; PACKAGE: TSSOP-24; VALUE: SN74AVC8T245
footprint SOG65_24 (PW TSSOP (TI), MO-153-AD (JEDEC), 24Lead, pitch: 0.65mm, 8x4.4x1.2mm)
pins: 1 VCCA, 2 DIR, 3 A1, 4 A2, 5 A3, 6 A4, 7 A5, 8 A6, 9 A7, 10 A8, 11 GND, 12 GND, 13 GND, 14 B8, 15 B7, 16 B6, 17 B5, 18 B4, 19 B3, 20 B2, 21 B1, 22 OE#, 23 VCCB, 24 VCCB, 25 EP
text: H, A to B

## SN74AVC8T245_TVSOP24
designator U?, comment SN74AVC8T245  (value not drawn)
Level Translator, Octal, 320Mbps, 8kVESD; MANF: Texas Instruments; MANF_P#: SN74AVC8T245DGV; PARAM2: 1.4~3.6v; PARAM: 320Mbps, 8kVESD; PACKAGE: TVSOP-24; VALUE: SN74AVC8T245
footprint SOG40_24 (DGV)
pins: 1 VCCA, 2 DIR, 3 A1, 4 A2, 5 A3, 6 A4, 7 A5, 8 A6, 9 A7, 10 A8, 11 GND, 12 GND, 13 GND, 14 B8, 15 B7, 16 B6, 17 B5, 18 B4, 19 B3, 20 B2, 21 B1, 22 OE#, 23 VCCB, 24 VCCB, 25 EP
text: H, A to B

## SN74AVC8T245_VQFN24
designator U?, comment SN74AVC8T245  (value not drawn)
Level Translator, Octal, 320Mbps, 8kVESD; MANF: Texas Instruments; MANF_P#: SN74AVC8T245RHL; PARAM2: 1.4~3.6v; PARAM: 320Mbps, 8kVESD; PACKAGE: VQFN-24; VALUE: SN74AVC8T245
footprint QFN50_24T_5535 (RGY VQFN-24, 0.5mm Pitch, 5.5x3.5x1mm)
pins: 1 VCCA, 2 DIR, 3 A1, 4 A2, 5 A3, 6 A4, 7 A5, 8 A6, 9 A7, 10 A8, 11 GND, 12 GND, 13 GND, 14 B8, 15 B7, 16 B6, 17 B5, 18 B4, 19 B3, 20 B2, 21 B1, 22 OE#, 23 VCCB, 24 VCCB, 25 EP
text: H, A to B

## SN74AVCH4T245_UQFN16
designator U?, comment 74AVCH4T245  (value not drawn)
Buffer and Level Translator, 4-bit with bus hold; PARAM: 12mA, 380Mbps, 5ns/V, -40~85°C; MANF: Texas Instruments; DESC: DESCRIPTION; MANF_P#: SN74AVCH4T245RSV; PARAM2: 1.2~3.6V; PRICE: 2$; ASSEMBLY: ASSEMBLY; VALUE: 74AVCH4T245; PACKAGE: UQFN-16
footprint QFN40_16_2618 (PUQFN-16 RSV 2.6X1.8mm, 0.4mm pitch)
pins: 1 1OE#, 2 VB, 3 VA, 4 1DIR, 5 2DIR, 6 1A1, 7 1A2, 8 2A1, 9 2A2, 10 GND, 11 GND, 12 2B2, 13 2B1, 14 1B2, 15 1B1, 16 2OE#
text: H, A to B; SN74AVCH4T245

## SN74AVCH8T245_TSSOP24
designator U?, comment SN74AVCH8T245  (value not drawn)
Level Translator, Octal, 320Mbps, 8kVESD, with Bus Hold; MANF: Texas Instruments; MANF_P#: SN74AVCH8T245PW; PARAM2: 1.2~3.6v; PARAM: 320Mbps, 8kVESD; PACKAGE: TSSOP-24; VALUE: SN74AVCH8T245
footprint SOG65_24 (PW TSSOP (TI), MO-153-AD (JEDEC), 24Lead, pitch: 0.65mm, 8x4.4x1.2mm)
pins: 1 VCCA, 2 DIR, 3 A1, 4 A2, 5 A3, 6 A4, 7 A5, 8 A6, 9 A7, 10 A8, 11 GND, 12 GND, 13 GND, 14 B8, 15 B7, 16 B6, 17 B5, 18 B4, 19 B3, 20 B2, 21 B1, 22 OE#, 23 VCCB, 24 VCCB, 25 EP
text: H, A to B

## SN74AVCH8T245_TVSOP24
designator U?, comment SN74AVCH8T245  (value not drawn)
Level Translator, Octal, 320Mbps, 8kVESD, with Bus Hold; MANF: Texas Instruments; MANF_P#: SN74AVCH8T245DGV; PARAM2: 1.2~3.6v; PARAM: 320Mbps, 8kVESD; PACKAGE: TVSOP-24; VALUE: SN74AVCH8T245
footprint SOG40_24 (DGV)
pins: 1 VCCA, 2 DIR, 3 A1, 4 A2, 5 A3, 6 A4, 7 A5, 8 A6, 9 A7, 10 A8, 11 GND, 12 GND, 13 GND, 14 B8, 15 B7, 16 B6, 17 B5, 18 B4, 19 B3, 20 B2, 21 B1, 22 OE#, 23 VCCB, 24 VCCB, 25 EP
text: H, A to B

## SN74AVCH8T245_VQFN24
designator U?, comment SN74AVCH8T245  (value not drawn)
Level Translator, Octal, 320Mbps, 8kVESD, with Bus Hold; MANF: Texas Instruments; MANF_P#: SN74AVCH8T245RHL; PARAM2: 1.2~3.6v; PARAM: 320Mbps, 8kVESD; PACKAGE: VQFN-24; VALUE: SN74AVCH8T245
footprint QFN50_24T_5535 (RGY VQFN-24, 0.5mm Pitch, 5.5x3.5x1mm)
pins: 1 VCCA, 2 DIR, 3 A1, 4 A2, 5 A3, 6 A4, 7 A5, 8 A6, 9 A7, 10 A8, 11 GND, 12 GND, 13 GND, 14 B8, 15 B7, 16 B6, 17 B5, 18 B4, 19 B3, 20 B2, 21 B1, 22 OE#, 23 VCCB, 24 VCCB, 25 EP
text: H, A to B

## SN74AXC4T245_UQFN16
designator U?, comment 74AXC4T245  (value not drawn)
Buffer and Level Translator, 4-bit; PARAM: 12mA, 380Mbps, 5ns/V, -40~85°C; MANF: Texas Instruments; DESC: DESCRIPTION; MANF_P#: SN74AXC4T245RSV; PARAM2: 0.6~3.6V; PRICE: 2$; ASSEMBLY: ASSEMBLY; VALUE: 74AXC4T245; PACKAGE: UQFN-16
footprint QFN40_16_2618 (PUQFN-16 RSV 2.6X1.8mm, 0.4mm pitch)
pins: 1 1OE#, 2 VB, 3 VA, 4 1DIR, 5 2DIR, 6 1A1, 7 1A2, 8 2A1, 9 2A2, 10 GND, 11 GND, 12 2B2, 13 2B1, 14 1B2, 15 1B1, 16 2OE#
text: H, A to B; SN74AXC4T245

## SN74AXC4T774_TSSOP16
designator U?, comment SN74AXC4T774  (value not drawn)
Level Translator, Quad, 310Mbps, 8kVESD; MANF: Texas Instruments; MANF_P#: SN74AXC4T774PWR; PARAM2: 0.65~3.6V; PARAM: 310Mbps, –40~125°C; PACKAGE: TSSOP-16; VALUE: SN74AXC4T774
footprint SOG65_16 (PW TSSOP (TI), MO-153-AB (JEDEC), 16Lead, pitch: 0.65mm, 5x4.4x1.2mm)
pins: 1 DIR1, 2 DIR2, 3 A1 (io), 4 A2 (io), 5 A3 (io), 6 A4 (io), 7 DIR3, 8 DIR4, 9 OE# (out), 10 GND, 11 B4 (io), 12 B3 (io), 13 B2 (io), 14 B1 (io), 15 VCCB, 16 VCCA

## SN74AXC4T774_UQFN16
designator U?, comment SN74AXC4T774  (value not drawn)
Level Translator, Quad, 310Mbps, 8kVESD; MANF: Texas Instruments; MANF_P#: SN74AVC4T774RSVR; PARAM2: 0.65~3.6V; PARAM: 310Mbps, –40~125°C; PACKAGE: UQFN-16; VALUE: SN74AXC4T774
footprint QFN40_16_2618 (PUQFN-16 RSV XQFN16 SOT1161-1, 2.6X1.8mm, 0.4mm pitch)
pins: 1 A1 (io), 2 A2 (io), 3 A3 (io), 4 A4 (io), 5 DIR3, 6 DIR4, 7 OE#, 8 GND, 9 B4 (io), 10 B3 (io), 11 B2 (io), 12 B1 (io), 13 VCCB, 14 VCCA, 15 DIR1, 16 DIR2

## SN74AXC4T774_WQFN16
designator U?, comment SN74AXC4T774  (value not drawn)
Level Translator, Quad, 310Mbps, 8kVESD; MANF: Texas Instruments; MANF_P#: SN74AXC4T774BQBR; PARAM2: 0.65~3.6V; PARAM: 310Mbps, –40~125°C; PACKAGE: WQFN-16; VALUE: SN74AXC4T774
footprint QFN50_16T_3525 (VQFN-16 RGY 3.5X2.5mm, 0.5mm pitch)
pins: 1 DIR1, 2 DIR2, 3 A1 (io), 4 A2 (io), 5 A3 (io), 6 A4 (io), 7 DIR3, 8 DIR4, 9 OE# (out), 10 GND (power), 11 B4 (io), 12 B3 (io), 13 B2 (io), 14 B1 (io), 15 VCCB, 16 VCCA, 17 EP

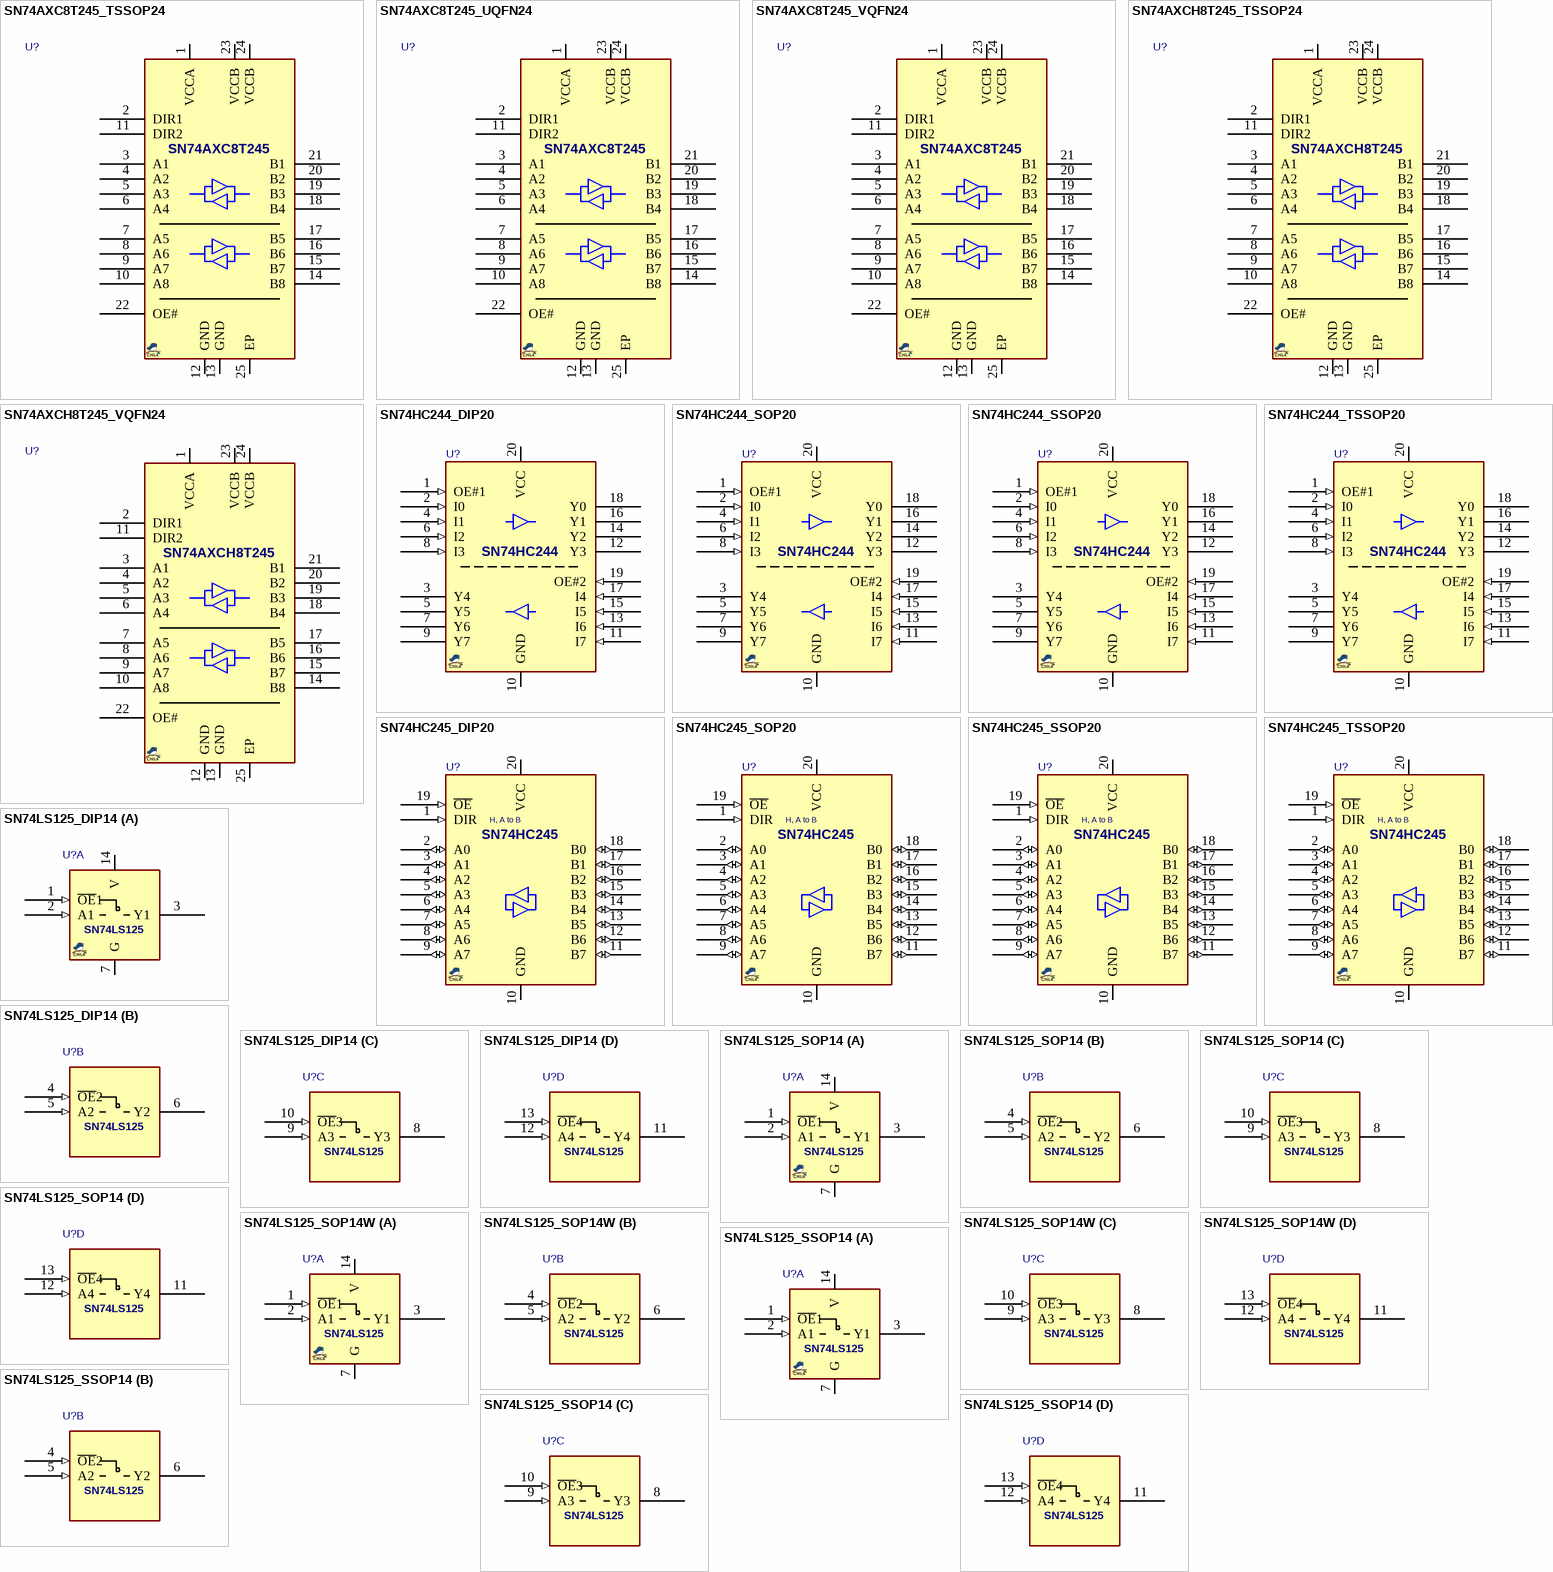
[diagram p3: symbols SN74AXC8T245_TSSOP24 to SN74LS125_SSOP14]

## SN74AXC8T245_TSSOP24
designator U?, comment SN74AXC8T245  (value not drawn)
Level Translator, Octal, 380Mbps, 8kVESD; MANF: Texas Instruments; MANF_P#: SN74AXC8T245PW; PARAM2: 0.65~3.6v; PARAM: 380Mbps, 8kVESD; PACKAGE: TSSOP-24; VALUE: SN74AXC8T245
footprint SOG65_24 (PW TSSOP (TI), MO-153-AD (JEDEC), 24Lead, pitch: 0.65mm, 8x4.4x1.2mm)
pins: 1 VCCA, 2 DIR1, 3 A1, 4 A2, 5 A3, 6 A4, 7 A5, 8 A6, 9 A7, 10 A8, 11 DIR2, 12 GND, 13 GND, 14 B8, 15 B7, 16 B6, 17 B5, 18 B4, 19 B3, 20 B2, 21 B1, 22 OE#, 23 VCCB, 24 VCCB, 25 EP

## SN74AXC8T245_UQFN24
designator U?, comment SN74AXC8T245  (value not drawn)
Level Translator, Octal, 380Mbps, 8kVESD; MANF: Texas Instruments; MANF_P#: SN74AXC8T245RJW; PARAM2: 0.65~3.6v; PARAM: 380Mbps, 8kVESD; PACKAGE: UQFN-24; VALUE: SN74AXC8T245
footprint QFN40_24_4020 (RJW UQFN-24, 2x4mm, Pitch 0.40mm)
pins: 1 VCCA, 2 DIR1, 3 A1, 4 A2, 5 A3, 6 A4, 7 A5, 8 A6, 9 A7, 10 A8, 11 DIR2, 12 GND, 13 GND, 14 B8, 15 B7, 16 B6, 17 B5, 18 B4, 19 B3, 20 B2, 21 B1, 22 OE#, 23 VCCB, 24 VCCB, 25 EP

## SN74AXC8T245_VQFN24
designator U?, comment SN74AXC8T245  (value not drawn)
Level Translator, Octal, 380Mbps, 8kVESD; MANF: Texas Instruments; MANF_P#: SN74AXC8T245RHL; PARAM2: 0.65~3.6v; PARAM: 380Mbps, 8kVESD; PACKAGE: VQFN-24; VALUE: SN74AXC8T245
footprint QFN50_24T_5535 (RGY VQFN-24, 0.5mm Pitch, 5.5x3.5x1mm)
pins: 1 VCCA, 2 DIR1, 3 A1, 4 A2, 5 A3, 6 A4, 7 A5, 8 A6, 9 A7, 10 A8, 11 DIR2, 12 GND, 13 GND, 14 B8, 15 B7, 16 B6, 17 B5, 18 B4, 19 B3, 20 B2, 21 B1, 22 OE#, 23 VCCB, 24 VCCB, 25 EP

## SN74AXCH8T245_TSSOP24
designator U?, comment SN74AXCH8T245  (value not drawn)
Level Translator, Octal, 380Mbps, 8kVESD, with Bus Hold; MANF: Texas Instruments; MANF_P#: SN74AXCH8T245PW; PARAM2: 0.65~3.6v; PARAM: 380Mbps, 8kVESD; PACKAGE: TSSOP-24; VALUE: SN74AXCH8T245
footprint SOG65_24 (PW TSSOP (TI), MO-153-AD (JEDEC), 24Lead, pitch: 0.65mm, 8x4.4x1.2mm)
pins: 1 VCCA, 2 DIR1, 3 A1, 4 A2, 5 A3, 6 A4, 7 A5, 8 A6, 9 A7, 10 A8, 11 DIR2, 12 GND, 13 GND, 14 B8, 15 B7, 16 B6, 17 B5, 18 B4, 19 B3, 20 B2, 21 B1, 22 OE#, 23 VCCB, 24 VCCB, 25 EP

## SN74AXCH8T245_VQFN24
designator U?, comment SN74AXCH8T245  (value not drawn)
Level Translator, Octal, 380Mbps, 8kVESD, with Bus Hold; MANF: Texas Instruments; MANF_P#: SN74AXCH8T245RHL; PARAM2: 0.65~3.6v; PARAM: 380Mbps, 8kVESD; PACKAGE: VQFN-24; VALUE: SN74AXCH8T245
footprint QFN50_24T_5535 (RGY VQFN-24, 0.5mm Pitch, 5.5x3.5x1mm)
pins: 1 VCCA, 2 DIR1, 3 A1, 4 A2, 5 A3, 6 A4, 7 A5, 8 A6, 9 A7, 10 A8, 11 DIR2, 12 GND, 13 GND, 14 B8, 15 B7, 16 B6, 17 B5, 18 B4, 19 B3, 20 B2, 21 B1, 22 OE#, 23 VCCB, 24 VCCB, 25 EP

## SN74HC244_DIP20
designator U?, comment SN74HC244  (value not drawn)
Buffer/Line Driver, Octal, 3-State Outputs; MANF: Texas Instruments; MANF_P#: SN74HC244N; PARAM2: 2~6V; PACKAGE: DIP-20; VALUE: SN74HC244
footprint DIP_20 (DIP, pitch 2.54mm, 300mil Width)
pins: 1 OE#1 (in), 2 I0 (in), 3 Y4 (hiz), 4 I1 (in), 5 Y5 (hiz), 6 I2 (in), 7 Y6 (hiz), 8 I3 (in), 9 Y7 (hiz), 10 GND (power), 11 I7 (in), 12 Y3 (hiz), 13 I6 (in), 14 Y2 (hiz), 15 I5 (in), 16 Y1 (hiz), 17 I4 (in), 18 Y0 (hiz), 19 OE#2 (in), 20 VCC (power)

## SN74HC244_SOP20
designator U?, comment SN74HC244  (value not drawn)
Buffer/Line Driver, Octal, 3-State Outputs; MANF: Texas Instruments; MANF_P#: SN74HC245NS; PARAM2: 2~6V; PACKAGE: SOP-20; VALUE: SN74HC244
footprint SO_20_W5 (Footprint not found)
pins: 1 OE#1 (in), 2 I0 (in), 3 Y4 (hiz), 4 I1 (in), 5 Y5 (hiz), 6 I2 (in), 7 Y6 (hiz), 8 I3 (in), 9 Y7 (hiz), 10 GND (power), 11 I7 (in), 12 Y3 (hiz), 13 I6 (in), 14 Y2 (hiz), 15 I5 (in), 16 Y1 (hiz), 17 I4 (in), 18 Y0 (hiz), 19 OE#2 (in), 20 VCC (power)

## SN74HC244_SSOP20
designator U?, comment SN74HC244  (value not drawn)
Buffer/Line Driver, Octal, 3-State Outputs; MANF: Texas Instruments; MANF_P#: SN74HC244DB; PARAM2: 2~6V; PACKAGE: SSOP-20; VALUE: SN74HC244
footprint SOG65_20_W (SSOP20, TSSOP20, RU-20, RQ-20, pitch: 0.65mm, 7X5.3mm, QSP, SOT339-1, SOT266-1, AT-260, TSSO6X6-G20, NP20, MO-153AC, MO-150AE, MO-137-AD, MO-152)
pins: 1 OE#1 (in), 2 I0 (in), 3 Y4 (hiz), 4 I1 (in), 5 Y5 (hiz), 6 I2 (in), 7 Y6 (hiz), 8 I3 (in), 9 Y7 (hiz), 10 GND (power), 11 I7 (in), 12 Y3 (hiz), 13 I6 (in), 14 Y2 (hiz), 15 I5 (in), 16 Y1 (hiz), 17 I4 (in), 18 Y0 (hiz), 19 OE#2 (in), 20 VCC (power)

## SN74HC244_TSSOP20
designator U?, comment SN74HC244  (value not drawn)
Buffer/Line Driver, Octal, 3-State Outputs; MANF: Texas Instruments; MANF_P#: SN74HC245PW; PARAM2: 2~6V; PACKAGE: TSSOP-20; VALUE: SN74HC244
footprint SOG65_20 (PW TSSOP (TI), MO-153-AC (JEDEC), 20Lead, pitch: 0.65mm, 6.5x4.4x1.2mm)
pins: 1 OE#1 (in), 2 I0 (in), 3 Y4 (hiz), 4 I1 (in), 5 Y5 (hiz), 6 I2 (in), 7 Y6 (hiz), 8 I3 (in), 9 Y7 (hiz), 10 GND (power), 11 I7 (in), 12 Y3 (hiz), 13 I6 (in), 14 Y2 (hiz), 15 I5 (in), 16 Y1 (hiz), 17 I4 (in), 18 Y0 (hiz), 19 OE#2 (in), 20 VCC (power)

## SN74HC245_DIP20
designator U?, comment SN74HC245  (value not drawn)
Buffer/Line Driver, Bidirectional, Octal, 3-State Input/Output; MANF: Texas Instruments; MANF_P#: SN74HC245N; PARAM2: 2~6V; PARAM: 6mA, 22ns; PACKAGE: DIP-20; VALUE: SN74HC245
footprint DIP_20 (DIP, pitch 2.54mm, 300mil Width)
pins: 1 DIR (in), 2 A0 (io), 3 A1 (io), 4 A2 (io), 5 A3 (io), 6 A4 (io), 7 A5 (io), 8 A6 (io), 9 A7 (io), 10 GND (power), 11 B7 (io), 12 B6 (io), 13 B5 (io), 14 B4 (io), 15 B3 (io), 16 B2 (io), 17 B1 (io), 18 B0 (io), 19 ~{OE} (in), 20 VCC (power)
text: H, A to B

## SN74HC245_SOP20
designator U?, comment SN74HC245  (value not drawn)
Buffer/Line Driver, Bidirectional, Octal, 3-State Input/Output; MANF: Texas Instruments; MANF_P#: SN74HC245NS; PARAM2: 2~6V; PARAM: 6mA, 22ns; PACKAGE: SOP-20; VALUE: SN74HC245
footprint SO_20_W5 (Footprint not found)
pins: 1 DIR (in), 2 A0 (io), 3 A1 (io), 4 A2 (io), 5 A3 (io), 6 A4 (io), 7 A5 (io), 8 A6 (io), 9 A7 (io), 10 GND (power), 11 B7 (io), 12 B6 (io), 13 B5 (io), 14 B4 (io), 15 B3 (io), 16 B2 (io), 17 B1 (io), 18 B0 (io), 19 ~{OE} (in), 20 VCC (power)
text: H, A to B

## SN74HC245_SSOP20
designator U?, comment SN74HC245  (value not drawn)
Buffer/Line Driver, Bidirectional, Octal, 3-State Input/Output; MANF: Texas Instruments; MANF_P#: SN74HC245DB; PARAM2: 2~6V; PARAM: 6mA, 22ns; PACKAGE: SSOP-20; VALUE: SN74HC245
footprint SOG65_20_W (SSOP20, TSSOP20, RU-20, RQ-20, pitch: 0.65mm, 7X5.3mm, QSP, SOT339-1, SOT266-1, AT-260, TSSO6X6-G20, NP20, MO-153AC, MO-150AE, MO-137-AD, MO-152)
pins: 1 DIR (in), 2 A0 (io), 3 A1 (io), 4 A2 (io), 5 A3 (io), 6 A4 (io), 7 A5 (io), 8 A6 (io), 9 A7 (io), 10 GND (power), 11 B7 (io), 12 B6 (io), 13 B5 (io), 14 B4 (io), 15 B3 (io), 16 B2 (io), 17 B1 (io), 18 B0 (io), 19 ~{OE} (in), 20 VCC (power)
text: H, A to B

## SN74HC245_TSSOP20
designator U?, comment SN74HC245  (value not drawn)
Buffer/Line Driver, Bidirectional, Octal, 3-State Input/Output; MANF: Texas Instruments; MANF_P#: SN74HC245PW; PARAM2: 2~6V; PARAM: 6mA, 22ns; PACKAGE: TSSOP-20; VALUE: SN74HC245
footprint SOG65_20 (PW TSSOP (TI), MO-153-AC (JEDEC), 20Lead, pitch: 0.65mm, 6.5x4.4x1.2mm)
pins: 1 DIR (in), 2 A0 (io), 3 A1 (io), 4 A2 (io), 5 A3 (io), 6 A4 (io), 7 A5 (io), 8 A6 (io), 9 A7 (io), 10 GND (power), 11 B7 (io), 12 B6 (io), 13 B5 (io), 14 B4 (io), 15 B3 (io), 16 B2 (io), 17 B1 (io), 18 B0 (io), 19 ~{OE} (in), 20 VCC (power)
text: H, A to B

## SN74LS125_DIP14
designator U?, comment SN74LS125  (value not drawn)
Buffer/Line Driver, Quad, Tri-State; MANF: Texas Instruments; MANF_P#: SN74LS125AN; PACKAGE: DIP-14; VALUE: SN74LS125
footprint DIP_14 (DIP, pitch 2.54mm, 300mil Width)
part A pins: 1 ~{OE}1 (in), 2 A1 (in), 3 Y1 (hiz), 7 G (power), 14 V (power)
part B pins: 4 ~{OE}2 (in), 5 A2 (in), 6 Y2 (hiz)
part C pins: 8 Y3 (hiz), 9 A3 (in), 10 ~{OE}3 (in)
part D pins: 11 Y4 (hiz), 12 A4 (in), 13 ~{OE}4 (in)

## SN74LS125_SOP14
designator U?, comment SN74LS125  (value not drawn)
Buffer/Line Driver, Quad, Tri-State; MANF: Texas Instruments; MANF_P#: SN74LS125ADR, SN74LS125AD; PACKAGE: SOP-14; VALUE: SN74LS125
footprint SO_14 (SOP, SOIC, 3.9mm width, 1.27mm pitch,)
part A pins: 1 ~{OE}1 (in), 2 A1 (in), 3 Y1 (hiz), 7 G (power), 14 V (power)
part B pins: 4 ~{OE}2 (in), 5 A2 (in), 6 Y2 (hiz)
part C pins: 8 Y3 (hiz), 9 A3 (in), 10 ~{OE}3 (in)
part D pins: 11 Y4 (hiz), 12 A4 (in), 13 ~{OE}4 (in)

## SN74LS125_SOP14W
designator U?, comment SN74LS125  (value not drawn)
Buffer/Line Driver, Quad, Tri-State; MANF: Texas Instruments; MANF_P#: SN74LS125ANS; PACKAGE: SOP-14; VALUE: SN74LS125
footprint SO_14_W5 (SOP NS, 5.3mm width, 1.27mm pitch,)
part A pins: 1 ~{OE}1 (in), 2 A1 (in), 3 Y1 (hiz), 7 G (power), 14 V (power)
part B pins: 4 ~{OE}2 (in), 5 A2 (in), 6 Y2 (hiz)
part C pins: 8 Y3 (hiz), 9 A3 (in), 10 ~{OE}3 (in)
part D pins: 11 Y4 (hiz), 12 A4 (in), 13 ~{OE}4 (in)

## SN74LS125_SSOP14
designator U?, comment SN74LS125  (value not drawn)
Buffer/Line Driver, Quad, Tri-State; MANF: Texas Instruments; MANF_P#: SN74LS125ADBR; PACKAGE: SSOP-14; VALUE: SN74LS125
footprint SOG65_14_W (SSOP 5.3mm Width 0.65mm pitch, SOT337-1, SOT402-1, MO-150AB(JEDEC),)
part A pins: 1 ~{OE}1 (in), 2 A1 (in), 3 Y1 (hiz), 7 G (power), 14 V (power)
part B pins: 4 ~{OE}2 (in), 5 A2 (in), 6 Y2 (hiz)
part C pins: 8 Y3 (hiz), 9 A3 (in), 10 ~{OE}3 (in)
part D pins: 11 Y4 (hiz), 12 A4 (in), 13 ~{OE}4 (in)

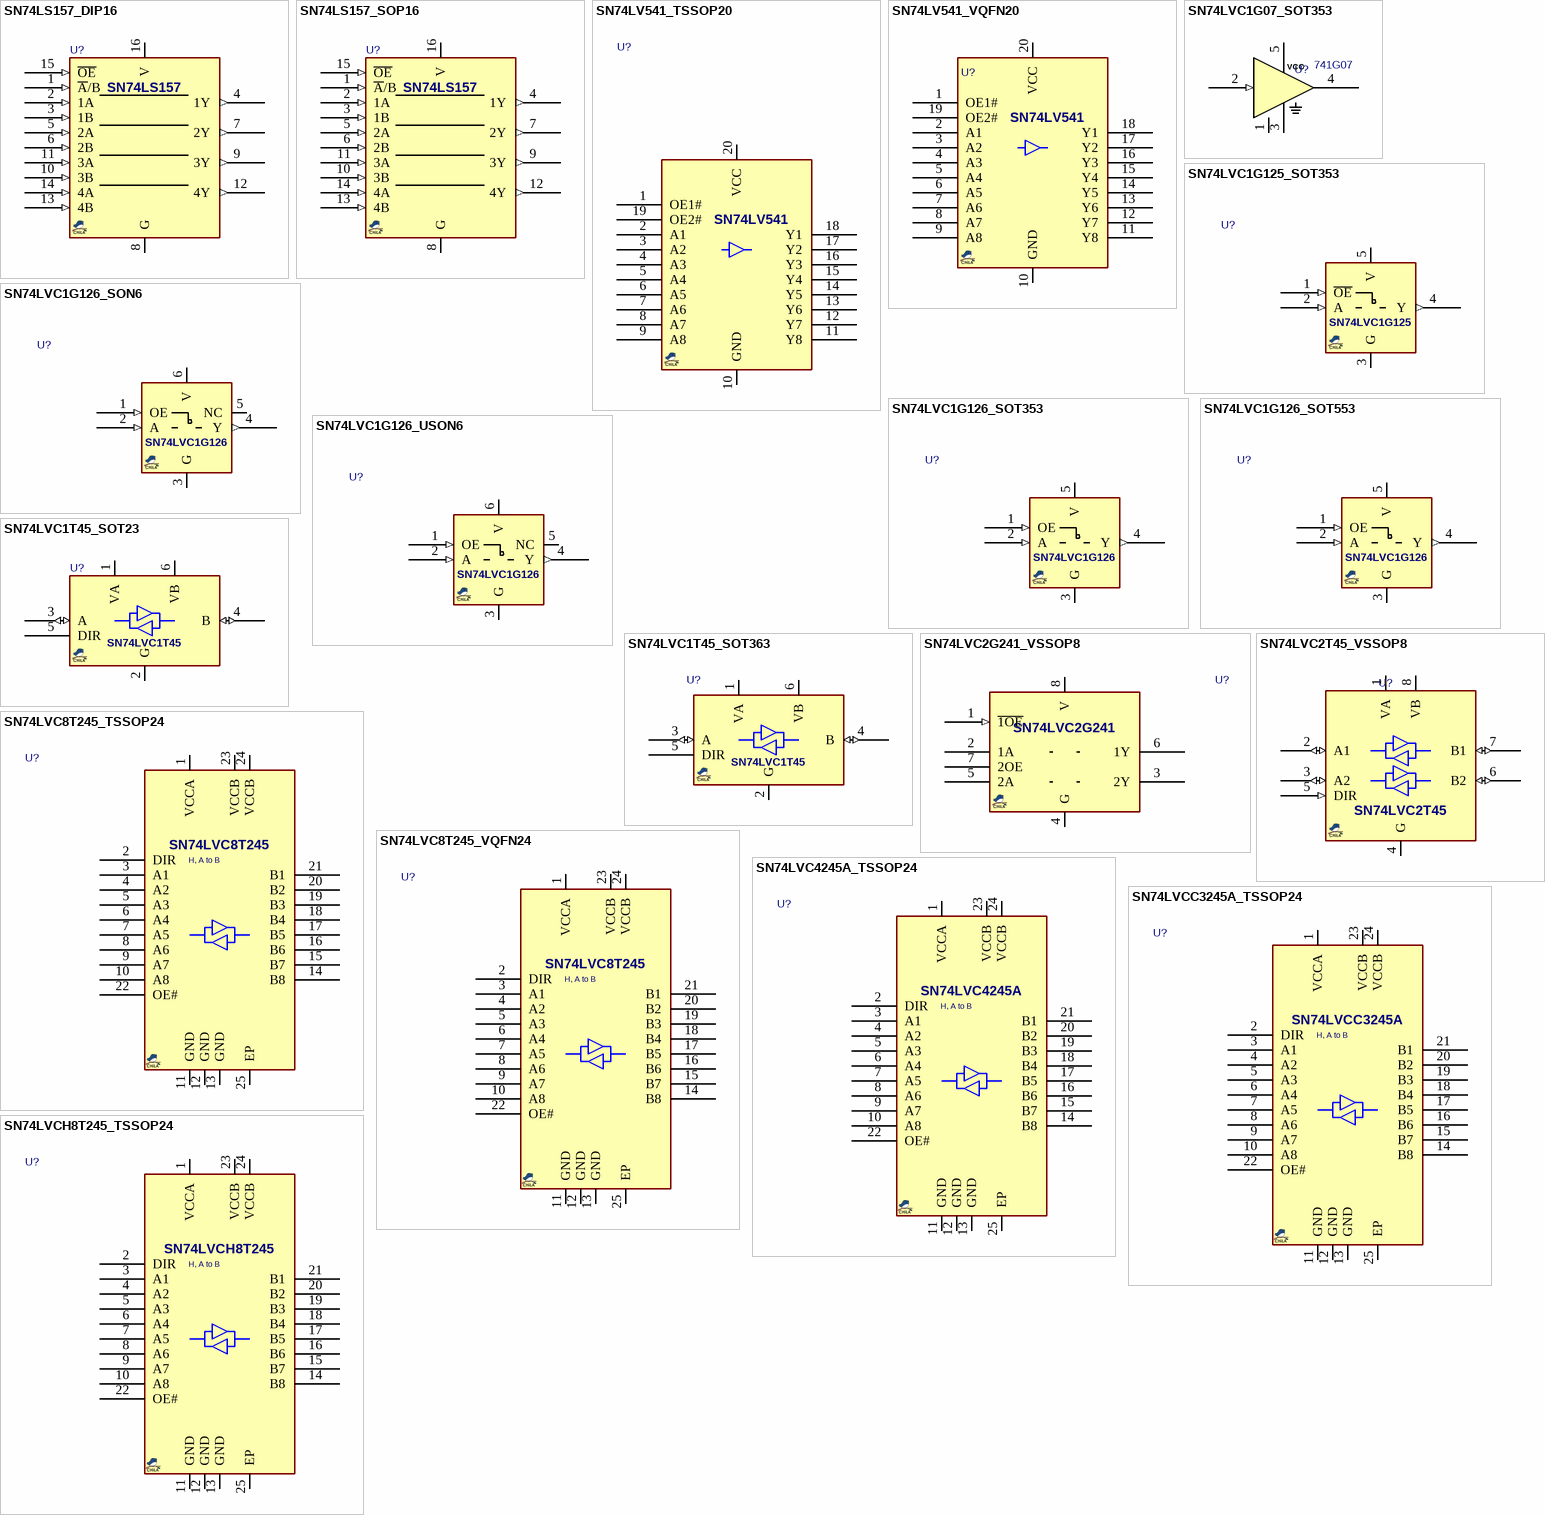
[diagram p4: symbols SN74LS157_DIP16 to SN74LVCH8T245_TSSOP24]

## SN74LS157_DIP16
designator U?, comment SN74LS157  (value not drawn)
Multiplexer/Selector, Quad, 2to1; MANF: Texas Instruments; MANF_P#: SN74LS157N; PARAM2: 4.75~5.25V; PARAM: 14ns; PACKAGE: DIP-16; VALUE: SN74LS157
footprint DIP_16 (DIP, pitch 2.54mm, 300mil Width)
pins: 1 ~{A}/B (in), 2 1A (in), 3 1B (in), 4 1Y (out), 5 2A (in), 6 2B (in), 7 2Y (out), 8 G (power), 9 3Y (out), 10 3B (in), 11 3A (in), 12 4Y (out), 13 4B (in), 14 4A (in), 15 ~{OE} (in), 16 V (power)

## SN74LS157_SOP16
designator U?, comment SN74LS157  (value not drawn)
Multiplexer/Selector, Quad, 2to1; MANF: Texas Instruments; MANF_P#: SN74LS157D; PARAM2: 4.75~5.25V; PARAM: 14ns; PACKAGE: SOP-16; VALUE: SN74LS157
footprint SO_16 (SOP, SOIC, 3.9mm width, 1.27mm pitch,)
pins: 1 ~{A}/B (in), 2 1A (in), 3 1B (in), 4 1Y (out), 5 2A (in), 6 2B (in), 7 2Y (out), 8 G (power), 9 3Y (out), 10 3B (in), 11 3A (in), 12 4Y (out), 13 4B (in), 14 4A (in), 15 ~{OE} (in), 16 V (power)

## SN74LV541_TSSOP20
designator U?, comment SN74LV541  (value not drawn)
Buffer/Line Driver, Octal, 3-State Outputs; MANF: Texas Instruments; MANF_P#: SN74LV541APWR; PARAM2: 2~5.5V; PACKAGE: TSSOP-20; VALUE: SN74LV541
footprint SOG65_20 (PW TSSOP (TI), MO-153-AC (JEDEC), 20Lead, pitch: 0.65mm, 6.5x4.4x1.2mm)
pins: 1 OE1#, 2 A1, 3 A2, 4 A3, 5 A4, 6 A5, 7 A6, 8 A7, 9 A8, 10 GND (power), 11 Y8, 12 Y7, 13 Y6, 14 Y5, 15 Y4, 16 Y3, 17 Y2, 18 Y1, 19 OE2#, 20 VCC

## SN74LV541_VQFN20
designator U?, comment SN74LV541  (value not drawn)
Buffer/Line Driver, Octal, 3-State Outputs; MANF: Texas Instruments; MANF_P#: SN74LV541ARGYR; PARAM2: 2~5.5V; PACKAGE: VQFN-20; VALUE: SN74LV541
footprint QFN50_20T_4535 (RGY VQFN-20, 0.5mm Pitch, 4.5x3.5x1mm)
pins: 1 OE1#, 2 A1, 3 A2, 4 A3, 5 A4, 6 A5, 7 A6, 8 A7, 9 A8, 10 GND (power), 11 Y8, 12 Y7, 13 Y6, 14 Y5, 15 Y4, 16 Y3, 17 Y2, 18 Y1, 19 OE2#, 20 VCC

## SN74LVC1G07_SOT353
designator U?, comment 741G07
Buffer/Line Driver, Single, Open-Drain Output; MANF: Texas Instruments; MANF_P#: SN74LVC1G07DCK; PARAM2: 1.65~5.5V; PARAM: 24mA~3.3V, 4.2ns; PRICE: -; PACKAGE: SOT-353; VALUE: 741G07
footprint SOT353_5 (SC-88A, SC70-5, SOT-353, DCK (TI), 0.65mm pitch 2X1.3mm body)
pins: 1 NC, 2 A (in), 3 GND (power), 4 Y, 5 VCC (power)

## SN74LVC1G125_SOT353
designator U?, comment SN74LVC1G125  (value not drawn)
Buffer, Single; MANF: Texas Instruments; PARAM: ±24mA, 3.7ns, -40~125oC; DESC: DESCRIPTION; MANF_P#: SN74LVC1G125DCK; PARAM2: 1.65~5.5v; ASSEMBLY: ASSEMBLY; PRICE: 0.36$; PACKAGE: SOT-353; VALUE: SN74LVC1G125
footprint SOT353_5 (SC-88A, SC70-5, SOT-353, DCK (TI), 0.65mm pitch 2X1.3mm body)
pins: 1 ~{OE} (in), 2 A (in), 3 G (power), 4 Y (out), 5 V (power)

## SN74LVC1G126_SON6
designator U?, comment SN74LVC1G126  (value not drawn)
Buffer, Single; MANF: Texas Instruments; PARAM: ±24mA, 3.7ns, -40~125°C; DESC: DESCRIPTION; MANF_P#: SN74LVC1G126DSF; PARAM2: 1.65~3.6v; ASSEMBLY: ASSEMBLY; PRICE: 0.4$; PACKAGE: SON-6; VALUE: SN74LVC1G126
footprint SON35_6_1010 (DSF X2SON, 0.35mm pitch, 1x1mm)
pins: 1 OE (in), 2 A (in), 3 G (power), 4 Y (out), 5 NC (power), 6 V (power)

## SN74LVC1G126_SOT353
designator U?, comment SN74LVC1G126  (value not drawn)
Buffer, Single; MANF: Texas Instruments; PARAM: ±24mA, 3.7ns, -40~125oC; DESC: DESCRIPTION; MANF_P#: SN74LVC1G126DCK; PARAM2: 1.65~5.5v; ASSEMBLY: ASSEMBLY; PRICE: 0.36$; PACKAGE: SOT-353; VALUE: SN74LVC1G126
footprint SOT353_5 (SC-88A, SC70-5, SOT-353, DCK (TI), 0.65mm pitch 2X1.3mm body)
pins: 1 OE (in), 2 A (in), 3 G (power), 4 Y (out), 5 V (power)

## SN74LVC1G126_SOT553
designator U?, comment SN74LVC1G126  (value not drawn)
Buffer, Single; MANF: Texas Instruments; PARAM: ±24mA, 3.7ns, -40~125oC; DESC: DESCRIPTION; MANF_P#: SN74LVC1G126DRL; PARAM2: 1.65~5.5v; ASSEMBLY: ASSEMBLY; PRICE: 0.36$; PACKAGE: SOT-553; VALUE: SN74LVC1G126
footprint SOT553_5 (SOT-553, DRL, 5 LEAD, 1.2x1.6mm, Pitch 0.50mm)
pins: 1 OE (in), 2 A (in), 3 G (power), 4 Y (out), 5 V (power)

## SN74LVC1G126_USON6
designator U?, comment SN74LVC1G126  (value not drawn)
Buffer, Single; MANF: Texas Instruments; PARAM: ±24mA, 3.7ns, -40~125°C; DESC: DESCRIPTION; MANF_P#: SN74LVC1G126DRY; PARAM2: 1.65~3.6v; ASSEMBLY: ASSEMBLY; PRICE: 0.4$; PACKAGE: USON-6; VALUE: SN74LVC1G126
footprint SON50_6_1410 (DRY, ULLGA6_1.45X1_0.5mm, USON 6-PIN , UDFN, MicroPak-6)
pins: 1 OE (in), 2 A (in), 3 G (power), 4 Y (out), 5 NC (power), 6 V (power)

## SN74LVC1T45_SOT23
designator U?, comment SN74LVC1T45  (value not drawn)
Level Translator, 1-bit; MANF: Texas Instruments; MANF_P#: SN74LVC1T45DBVR; PACKAGE: SOT-23; VALUE: SN74LVC1T45
footprint SOT23_6 (SOT-23-6, MICRO6, SOT-26, SOT457, SuperSOT6, TSOP-6, HMC313, MO-178AB, MO-193AA, TSOT)
pins: 1 VA (power), 2 G (power), 3 A (io), 4 B (io), 5 DIR, 6 VB (power)

## SN74LVC1T45_SOT363
designator U?, comment SN74LVC1T45  (value not drawn)
Level Translator, 1-bit; MANF: Texas Instruments; MANF_P#: SN74LVC1T45DCK; PARAM2: 1.65~5.5V; PRICE: 0.5$; PACKAGE: SOT-363; VALUE: SN74LVC1T45
footprint SOT363_6 (SOT-363, SC-70_6, BFS483, SC-88, MO-203AB, DSO65_6_200X130)
pins: 1 VA (power), 2 G (power), 3 A (io), 4 B (io), 5 DIR, 6 VB (power)

## SN74LVC2G241_VSSOP8
designator U?, comment SN74LVC2G241  (value not drawn)
Buffer/Line Driver, Dual, 3-State Outputs; MANF: Texas Instruments; MANF_P#: SN74LVC2G241DCU; PACKAGE: VSSOP-8; VALUE: SN74LVC2G241
footprint SOG50_8 (VSSOP DCU US8  (TI), 8-Leads, 2.00x2.30mm, Pitch 0.50mm)
pins: 1 ~{1OE} (in), 2 1A, 3 2Y, 4 G (power), 5 2A, 6 1Y, 7 2OE, 8 V (power)

## SN74LVC2T45_VSSOP8
designator U?, comment SN74LVC2T45  (value not drawn)
Level Translator, Dual, 3State; MANF: Texas Instruments; MANF_P#: SN74LVC2T45DCU; PRICE: 0.6$; PACKAGE: VSSOP-8; VALUE: SN74LVC2T45
footprint SOG50_8 (VSSOP DCU US8  (TI), 8-Leads, 2.00x2.30mm, Pitch 0.50mm)
pins: 1 VA, 2 A1 (io), 3 A2 (io), 4 G, 5 DIR (in), 6 B2 (io), 7 B1 (io), 8 VB

## SN74LVC8T245_TSSOP24
designator U?, comment SN74LVC8T245  (value not drawn)
Level Translator, Octal, 10ns, 4kVESD; MANF: Texas Instruments; MANF_P#: SN74LVC8T245PW; PARAM2: 1.65~5.5v; PARAM: 10ns, 4kVESD; PACKAGE: TSSOP-24; VALUE: SN74LVC8T245
footprint SOG65_24 (PW TSSOP (TI), MO-153-AD (JEDEC), 24Lead, pitch: 0.65mm, 8x4.4x1.2mm)
pins: 1 VCCA, 2 DIR, 3 A1, 4 A2, 5 A3, 6 A4, 7 A5, 8 A6, 9 A7, 10 A8, 11 GND, 12 GND, 13 GND, 14 B8, 15 B7, 16 B6, 17 B5, 18 B4, 19 B3, 20 B2, 21 B1, 22 OE#, 23 VCCB, 24 VCCB, 25 EP
text: H, A to B

## SN74LVC8T245_VQFN24
designator U?, comment SN74LVC8T245  (value not drawn)
Level Translator, Octal, 10ns, 4kVESD; MANF: Texas Instruments; MANF_P#: SN74LVC8T245RHL; PARAM2: 1.65~5.5v; PARAM: 10ns, 4kVESD; PACKAGE: VQFN-24; VALUE: SN74LVC8T245
footprint QFN50_24T_5535 (RGY VQFN-24, 0.5mm Pitch, 5.5x3.5x1mm)
pins: 1 VCCA, 2 DIR, 3 A1, 4 A2, 5 A3, 6 A4, 7 A5, 8 A6, 9 A7, 10 A8, 11 GND, 12 GND, 13 GND, 14 B8, 15 B7, 16 B6, 17 B5, 18 B4, 19 B3, 20 B2, 21 B1, 22 OE#, 23 VCCB, 24 VCCB, 25 EP
text: H, A to B

## SN74LVC4245A_TSSOP24
designator U?, comment SN74LVC4245A  (value not drawn)
Level Translator, Octal, 320Mbps, 8kVESD; MANF: Texas Instruments; MANF_P#: SN74LVC4245APW; PARAM2: 3.3V to 5V; PARAM: 6ns, 2kVESD; PACKAGE: TSSOP-24; VALUE: SN74LVC4245A
footprint SOG65_24 (PW TSSOP (TI), MO-153-AD (JEDEC), 24Lead, pitch: 0.65mm, 8x4.4x1.2mm)
pins: 1 VCCA, 2 DIR, 3 A1, 4 A2, 5 A3, 6 A4, 7 A5, 8 A6, 9 A7, 10 A8, 11 GND, 12 GND, 13 GND, 14 B8, 15 B7, 16 B6, 17 B5, 18 B4, 19 B3, 20 B2, 21 B1, 22 OE#, 23 VCCB, 24 VCCB, 25 EP
text: H, A to B

## SN74LVCC3245A_TSSOP24
designator U?, comment SN74LVCC3245A  (value not drawn)
Level Translator, Octal, 320Mbps, 8kVESD; MANF: Texas Instruments; MANF_P#: SN74LVCC3245APW; PARAM2: 2.3~3.6VCCA, 3~5.5VCCB; PARAM: 6ns, 2kVESD; PACKAGE: TSSOP-24; VALUE: SN74LVCC3245A
footprint SOG65_24 (PW TSSOP (TI), MO-153-AD (JEDEC), 24Lead, pitch: 0.65mm, 8x4.4x1.2mm)
pins: 1 VCCA, 2 DIR, 3 A1, 4 A2, 5 A3, 6 A4, 7 A5, 8 A6, 9 A7, 10 A8, 11 GND, 12 GND, 13 GND, 14 B8, 15 B7, 16 B6, 17 B5, 18 B4, 19 B3, 20 B2, 21 B1, 22 OE#, 23 VCCB, 24 VCCB, 25 EP
text: H, A to B

## SN74LVCH8T245_TSSOP24
designator U?, comment SN74LVCH8T245  (value not drawn)
Level Translator, Octal, 10ns, 4kVESD, with Bus Hold; MANF: Texas Instruments; MANF_P#: SN74LVCH8T245PW; PARAM2: 1.65~5.5v; PARAM: 10ns, 4kVESD; PACKAGE: TSSOP-24; VALUE: SN74LVCH8T245
footprint SOG65_24 (PW TSSOP (TI), MO-153-AD (JEDEC), 24Lead, pitch: 0.65mm, 8x4.4x1.2mm)
pins: 1 VCCA, 2 DIR, 3 A1, 4 A2, 5 A3, 6 A4, 7 A5, 8 A6, 9 A7, 10 A8, 11 GND, 12 GND, 13 GND, 14 B8, 15 B7, 16 B6, 17 B5, 18 B4, 19 B3, 20 B2, 21 B1, 22 OE#, 23 VCCB, 24 VCCB, 25 EP
text: H, A to B

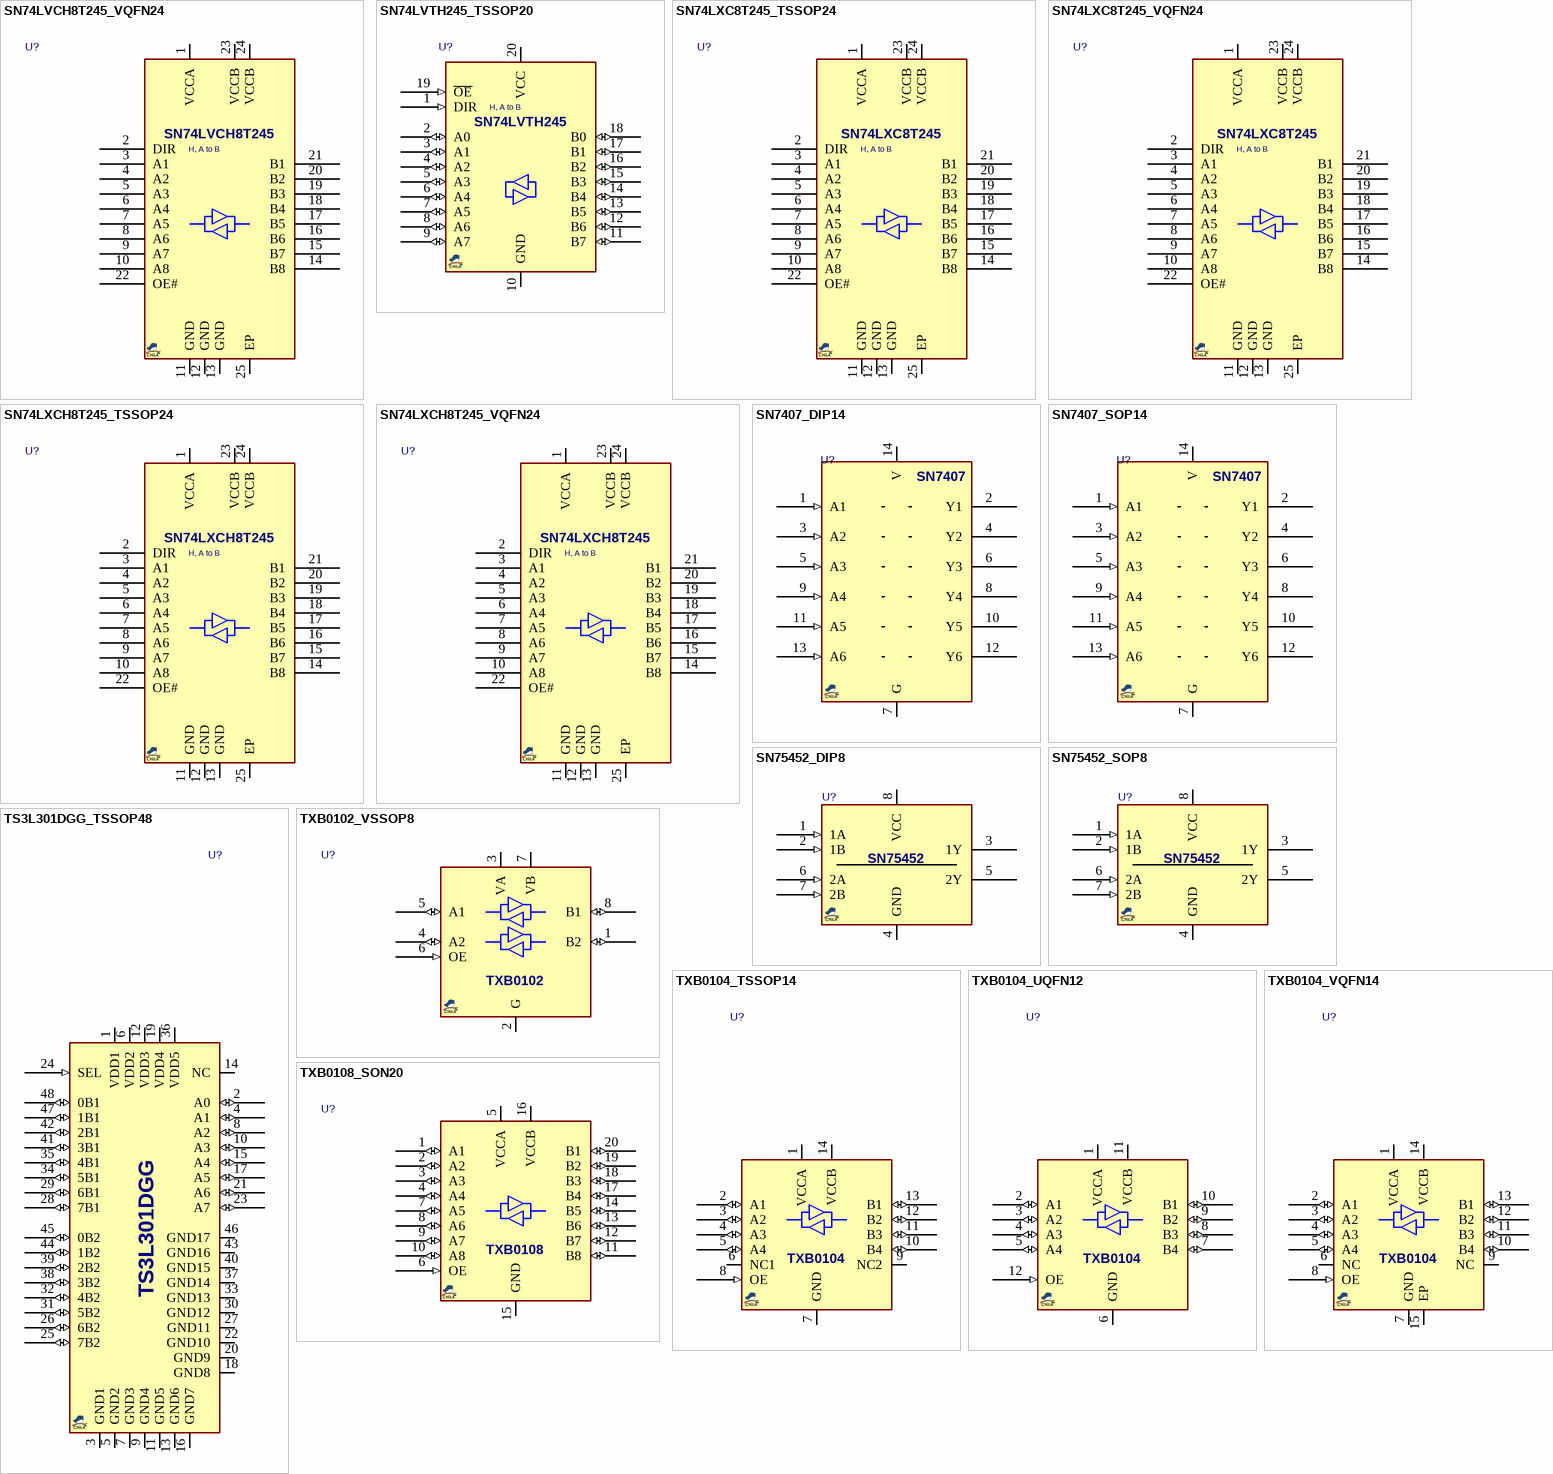
[diagram p5: symbols SN74LVCH8T245_VQFN24 to TXB0108_SON20]

## SN74LVCH8T245_VQFN24
designator U?, comment SN74LVCH8T245  (value not drawn)
Level Translator, Octal, 10ns, 4kVESD, with Bus Hold; MANF: Texas Instruments; MANF_P#: SN74LVCH8T245RHL; PARAM2: 1.65~5.5v; PARAM: 10ns, 4kVESD; PACKAGE: VQFN-24; VALUE: SN74LVCH8T245
footprint QFN50_24T_5535 (RGY VQFN-24, 0.5mm Pitch, 5.5x3.5x1mm)
pins: 1 VCCA, 2 DIR, 3 A1, 4 A2, 5 A3, 6 A4, 7 A5, 8 A6, 9 A7, 10 A8, 11 GND, 12 GND, 13 GND, 14 B8, 15 B7, 16 B6, 17 B5, 18 B4, 19 B3, 20 B2, 21 B1, 22 OE#, 23 VCCB, 24 VCCB, 25 EP
text: H, A to B

## SN74LVTH245_TSSOP20
designator U?, comment SN74LVTH245  (value not drawn)
Transceiver, Octal, 3-State; MANF: Texas Instruments; MANF_P#: SN74LVTH245AIPW; PARAM2: 2.7~3.6V; PARAM: 32mA, 3.5ns; PACKAGE: TSSOP-20; VALUE: SN74LVTH245
footprint SOG65_20 (PW TSSOP (TI), MO-153-AC (JEDEC), 20Lead, pitch: 0.65mm, 6.5x4.4x1.2mm)
pins: 1 DIR (in), 2 A0 (io), 3 A1 (io), 4 A2 (io), 5 A3 (io), 6 A4 (io), 7 A5 (io), 8 A6 (io), 9 A7 (io), 10 GND (power), 11 B7 (io), 12 B6 (io), 13 B5 (io), 14 B4 (io), 15 B3 (io), 16 B2 (io), 17 B1 (io), 18 B0 (io), 19 ~{OE} (in), 20 VCC (power)
text: H, A to B

## SN74LXC8T245_TSSOP24
designator U?, comment SN74LXC8T245  (value not drawn)
Level Translator, Octal, 420Mbps, 4kVESD; MANF: Texas Instruments; MANF_P#: SN74LXC8T245PW; PARAM2: 1.1~5.5v; PARAM: 420Mbps, 4kVESD; PACKAGE: TSSOP-24; VALUE: SN74LXC8T245
footprint SOG65_24 (PW TSSOP (TI), MO-153-AD (JEDEC), 24Lead, pitch: 0.65mm, 8x4.4x1.2mm)
pins: 1 VCCA, 2 DIR, 3 A1, 4 A2, 5 A3, 6 A4, 7 A5, 8 A6, 9 A7, 10 A8, 11 GND, 12 GND, 13 GND, 14 B8, 15 B7, 16 B6, 17 B5, 18 B4, 19 B3, 20 B2, 21 B1, 22 OE#, 23 VCCB, 24 VCCB, 25 EP
text: H, A to B

## SN74LXC8T245_VQFN24
designator U?, comment SN74LXC8T245  (value not drawn)
Level Translator, Octal, 420Mbps, 4kVESD; MANF: Texas Instruments; MANF_P#: SN74LXC8T245RHL; PARAM2: 1.1~5.5v; PARAM: 420Mbps, 4kVESD; PACKAGE: VQFN-24; VALUE: SN74LXC8T245
footprint QFN50_24T_5535 (RGY VQFN-24, 0.5mm Pitch, 5.5x3.5x1mm)
pins: 1 VCCA, 2 DIR, 3 A1, 4 A2, 5 A3, 6 A4, 7 A5, 8 A6, 9 A7, 10 A8, 11 GND, 12 GND, 13 GND, 14 B8, 15 B7, 16 B6, 17 B5, 18 B4, 19 B3, 20 B2, 21 B1, 22 OE#, 23 VCCB, 24 VCCB, 25 EP
text: H, A to B

## SN74LXCH8T245_TSSOP24
designator U?, comment SN74LXCH8T245  (value not drawn)
Level Translator, Octal, 420Mbps, 4kVESD, with Bus Hold; MANF: Texas Instruments; MANF_P#: SN74LXCH8T245PW; PARAM2: 1.1~5.5v; PARAM: 420Mbps, 4kVESD; PACKAGE: TSSOP-24; VALUE: SN74LXCH8T245
footprint SOG65_24 (PW TSSOP (TI), MO-153-AD (JEDEC), 24Lead, pitch: 0.65mm, 8x4.4x1.2mm)
pins: 1 VCCA, 2 DIR, 3 A1, 4 A2, 5 A3, 6 A4, 7 A5, 8 A6, 9 A7, 10 A8, 11 GND, 12 GND, 13 GND, 14 B8, 15 B7, 16 B6, 17 B5, 18 B4, 19 B3, 20 B2, 21 B1, 22 OE#, 23 VCCB, 24 VCCB, 25 EP
text: H, A to B

## SN74LXCH8T245_VQFN24
designator U?, comment SN74LXCH8T245  (value not drawn)
Level Translator, Octal, 420Mbps, 4kVESD, with Bus Hold; MANF: Texas Instruments; MANF_P#: SN74LXCH8T245RHL; PARAM2: 1.1~5.5v; PARAM: 420Mbps, 4kVESD; PACKAGE: VQFN-24; VALUE: SN74LXCH8T245
footprint QFN50_24T_5535 (RGY VQFN-24, 0.5mm Pitch, 5.5x3.5x1mm)
pins: 1 VCCA, 2 DIR, 3 A1, 4 A2, 5 A3, 6 A4, 7 A5, 8 A6, 9 A7, 10 A8, 11 GND, 12 GND, 13 GND, 14 B8, 15 B7, 16 B6, 17 B5, 18 B4, 19 B3, 20 B2, 21 B1, 22 OE#, 23 VCCB, 24 VCCB, 25 EP
text: H, A to B

## SN7407_DIP14
designator U?, comment SN7407  (value not drawn)
Buffer/ Line Driver, Hex, Open-Collector High-Voltage Outputs; MANF: Texas Instruments; MANF_P#: SN7407N; PACKAGE: DIP-14; VALUE: SN7407
footprint DIP_14 (DIP, pitch 2.54mm, 300mil Width)
pins: 1 A1 (in), 2 Y1 (oc), 3 A2 (in), 4 Y2 (oc), 5 A3 (in), 6 Y3 (oc), 7 G (power), 8 Y4 (oc), 9 A4 (in), 10 Y5 (oc), 11 A5 (in), 12 Y6 (oc), 13 A6 (in), 14 V (power)

## SN7407_SOP14
designator U?, comment SN7407  (value not drawn)
Buffer/ Line Driver, Hex, Open-Collector High-Voltage Outputs; MANF: Texas Instruments; MANF_P#: SN7407D; PACKAGE: SOP-14; VALUE: SN7407
footprint SO_14 (SOP, SOIC, 3.9mm width, 1.27mm pitch,)
pins: 1 A1 (in), 2 Y1 (oc), 3 A2 (in), 4 Y2 (oc), 5 A3 (in), 6 Y3 (oc), 7 G (power), 8 Y4 (oc), 9 A4 (in), 10 Y5 (oc), 11 A5 (in), 12 Y6 (oc), 13 A6 (in), 14 V (power)

## SN75452_DIP8
designator U?, comment SN75452  (value not drawn)
Driver, Dual-Peripheral, High-Current, High-Speed Switching; MANF: Texas Instruments; MANF_P#: SN75452BP; PARAM: 300mA, up to 30V; PACKAGE: DIP-8; VALUE: SN75452
footprint DIP_8 (DIP, pitch 2.54mm, 300mil Width)
pins: 1 1A (in), 2 1B (in), 3 1Y (oc), 4 GND (power), 5 2Y (oc), 6 2A (in), 7 2B (in), 8 VCC (power)

## SN75452_SOP8
designator U?, comment SN75452  (value not drawn)
Driver, Dual-Peripheral, High-Current, High-Speed Switching; MANF: Texas Instruments; MANF_P#: SN75452BDR, SN75452BD; PARAM: 300mA, up to 30V; PACKAGE: SOP-8; VALUE: SN75452
footprint SO_8 (SOP-8, 5x3.9mm body 1.27mm pitch, SOT96-1, M08A, S8, SOIC8, VO8, MS-012AA(JEDEC), R-8, 8S2, VOG8)
pins: 1 1A (in), 2 1B (in), 3 1Y (oc), 4 GND (power), 5 2Y (oc), 6 2A (in), 7 2B (in), 8 VCC (power)